# Altium schematic symbol library SamacSys.SchLib: 171 symbols (part 2 of 3)
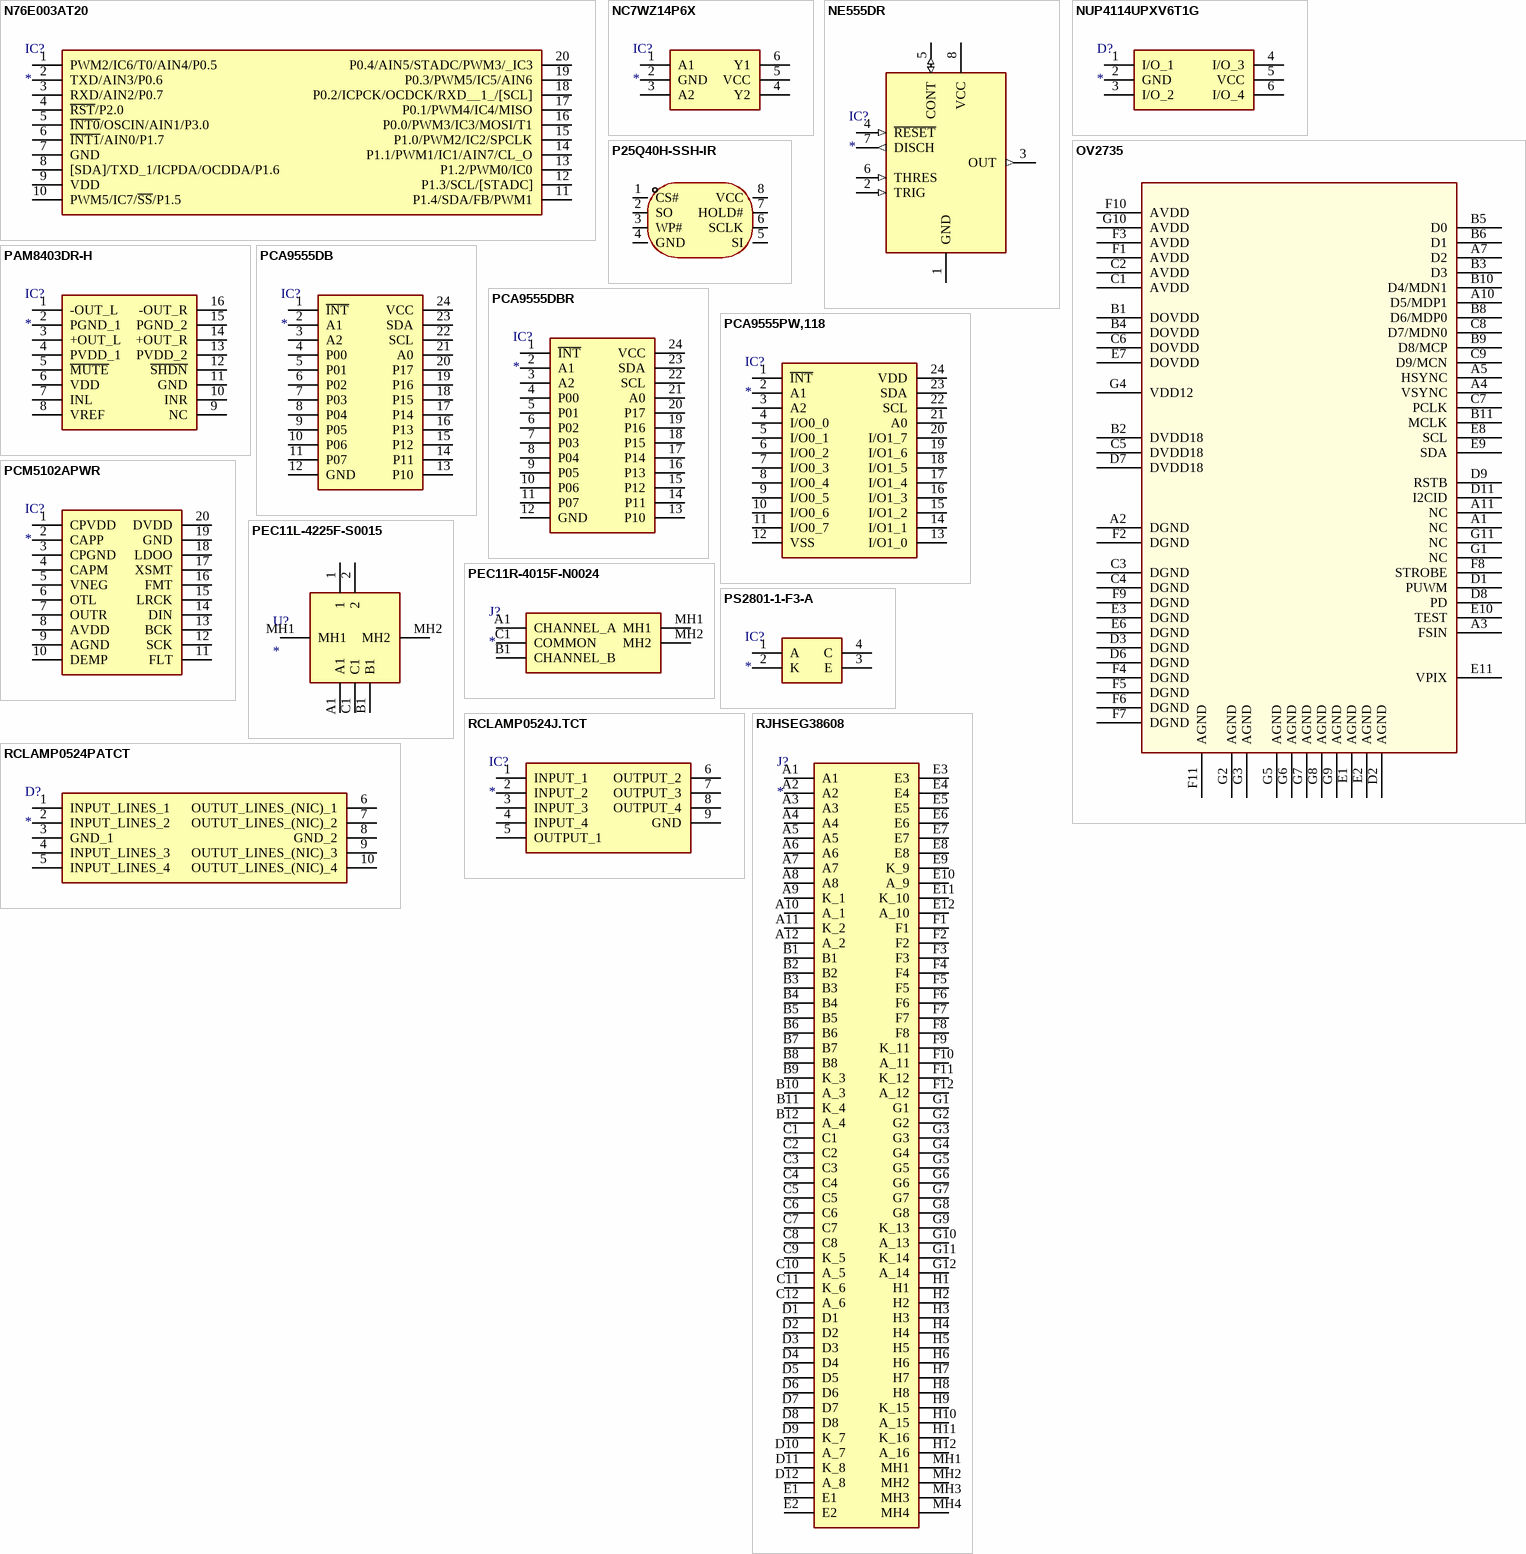
[diagram p7: symbols N76E003AT20 to RJHSEG38608]

## P25Q40H-SSH-IR
designator IC?  (value not drawn)
NOR Flash; Manufacturer: 普冉(PUYA); Add into BOM: yes; Name: P25Q40H-SSH-IR; Symbol: P25Q40H-SSH-IR; Device: P25Q40H-SSH-IR; LCSC Part Name: P25Q40H-SSH-IR; Supplier Part: C559190; Manufacturer Part: P25Q40H-SSH-IR; Supplier Footprint: SOP-8_150mil; JLCPCB Part Class: Extended Part; Datasheet: https://atta.szlcsc.com/upload/public/pdf/source/20200525/C559183_07BD32D8DF77BC45A4D1018710E6F498.pdf; Supplier: LCSC; Convert to PCB: yes; Memory Type: -; Memory Format: -; Technology: -; Memory Size: -; Clock Frequency: -; Byte-Program Time - tBP: -; Page Programming Time - tPP: -; Memory Interface: -; Voltage - Supply: -; Operating Temperature: -
footprint SOIC127P600X175-8N
pins: 1 CS#, 2 SO, 3 WP#, 4 GND, 5 SI, 6 SCLK, 7 HOLD#, 8 VCC

## PAM8403DR-H
designator IC?
Integrated Circuit; Manufacturer_Name: Diodes Inc.; Manufacturer_Part_Number: PAM8403DR-H; Datasheet Link: https://www.diodes.com/assets/Datasheets/PAM8403H.pdf; Height: 1.75mm; Mouser Part Number: 621-PAM8403DR-H; Mouser Price/Stock: https://www.mouser.co.uk/ProductDetail/Diodes-Incorporated/PAM8403DR-H?qs=%252BSlWJf1dfkKg75OIzZ5AmQ%3D%3D; Arrow Part Number: PAM8403DR-H; Arrow Price/Stock: https://www.arrow.com/en/products/pam8403dr-h/diodes-incorporated?region=nac
footprint SOIC127P605X175-16N
pins: 1 -OUT_L, 2 PGND_1, 3 +OUT_L, 4 PVDD_1, 5 ~{MUTE}, 6 VDD, 7 INL, 8 VREF, 9 NC, 10 INR, 11 GND, 12 ~{SHDN}, 13 PVDD_2, 14 +OUT_R, 15 PGND_2, 16 -OUT_R

## PCA9555DB
designator IC?
Integrated Circuit; Manufacturer_Name: Texas Instruments; Manufacturer_Part_Number: PCA9555DB; Datasheet Link: http://www.ti.com/lit/gpn/PCA9555; Height: 2mm; Mouser Part Number: 595-PCA9555DB; Mouser Price/Stock: https://www.mouser.co.uk/ProductDetail/Texas-Instruments/PCA9555DB?qs=wgAEGBTxy7nABWVtp7CYpQ%3D%3D; Arrow Part Number: PCA9555DB; Arrow Price/Stock: https://www.arrow.com/en/products/pca9555db/texas-instruments?region=nac
footprint SOP65P780X200-24N
pins: 1 ~{INT}, 2 A1, 3 A2, 4 P00, 5 P01, 6 P02, 7 P03, 8 P04, 9 P05, 10 P06, 11 P07, 12 GND, 13 P10, 14 P11, 15 P12, 16 P13, 17 P14, 18 P15, 19 P16, 20 P17, 21 A0, 22 SCL, 23 SDA, 24 VCC

## PCA9555DBR
designator IC?
Integrated Circuit; Manufacturer_Name: Texas Instruments; Manufacturer_Part_Number: PCA9555DBR; Datasheet Link: http://www.ti.com/lit/gpn/pca9555; Height: 2mm; Mouser Part Number: 595-PCA9555DBR; Mouser Price/Stock: https://www.mouser.co.uk/ProductDetail/Texas-Instruments/PCA9555DBR?qs=wgAEGBTxy7l1xXG%252B7TYBgA%3D%3D; Arrow Part Number: PCA9555DBR; Arrow Price/Stock: https://www.arrow.com/en/products/pca9555dbr/texas-instruments?region=nac
footprint SOP65P780X200-24N
pins: 1 ~{INT}, 2 A1, 3 A2, 4 P00, 5 P01, 6 P02, 7 P03, 8 P04, 9 P05, 10 P06, 11 P07, 12 GND, 13 P10, 14 P11, 15 P12, 16 P13, 17 P14, 18 P15, 19 P16, 20 P17, 21 A0, 22 SCL, 23 SDA, 24 VCC

## PCA9555PW,118
designator IC?
Integrated Circuit; Manufacturer_Name: PHILIPS; Manufacturer_Part_Number: PCA9555PW,118; Datasheet Link: http://www.nxp.com/docs/en/data-sheet/PCA9555.pdf; Height: 1.1mm; Mouser Part Number: 771-PCA9555PW-T; Mouser Price/Stock: https://www.mouser.co.uk/ProductDetail/NXP-Semiconductors/PCA9555PW118?qs=LOCUfHb8d9tg%2FDVhTFcZVQ%3D%3D; Arrow Part Number: PCA9555PW,118; Arrow Price/Stock: https://www.arrow.com/en/products/pca9555pw118/nxp-semiconductors?region=nac
footprint SOP65P640X110-24N
pins: 1 ~{INT}, 2 A1, 3 A2, 4 I/O0_0, 5 I/O0_1, 6 I/O0_2, 7 I/O0_3, 8 I/O0_4, 9 I/O0_5, 10 I/O0_6, 11 I/O0_7, 12 VSS, 13 I/O1_0, 14 I/O1_1, 15 I/O1_2, 16 I/O1_3, 17 I/O1_4, 18 I/O1_5, 19 I/O1_6, 20 I/O1_7, 21 A0, 22 SCL, 23 SDA, 24 VDD

## PCM5102APWR
designator IC?
Integrated Circuit; Manufacturer_Name: Texas Instruments; Manufacturer_Part_Number: PCM5102APWR; Datasheet Link: https://componentsearchengine.com/Datasheets/2/PCM5102APWR.pdf; Height: 1.2mm; Arrow Part Number: PCM5102APWR; Arrow Price/Stock: https://www.arrow.com/en/products/pcm5102apwr/texas-instruments; Mouser Part Number: 595-PCM5102APWR; Mouser Price/Stock: https://www.mouser.co.uk/ProductDetail/Texas-Instruments/PCM5102APWR?qs=E2%2FxqS9xjzrfECkwEYoiyg%3D%3D
footprint SOP65P640X120-20N
pins: 1 CPVDD, 2 CAPP, 3 CPGND, 4 CAPM, 5 VNEG, 6 OTL, 7 OUTR, 8 AVDD, 9 AGND, 10 DEMP, 11 FLT, 12 SCK, 13 BCK, 14 DIN, 15 LRCK, 16 FMT, 17 XSMT, 18 LDOO, 19 GND, 20 DVDD

## PEC11L-4225F-S0015
designator U?
Undefined or Miscellaneous; Manufacturer_Name: Bourns; Manufacturer_Part_Number: PEC11L-4225F-S0015; Datasheet Link: https://www.mouser.com/datasheet/2/54/pec11l-777793.pdf; Height: 25mm; Mouser Part Number: 652-PEC11L4225FS0015; Mouser Price/Stock: https://www.mouser.com/Search/Refine.aspx?Keyword=652-PEC11L4225FS0015
footprint PEC11L4120FS0020
pins: 1, 2, A1, B1, C1, MH1, MH2

## PEC11R-4015F-N0024
designator J?
Connector; Manufacturer_Name: Bourns; Manufacturer_Part_Number: PEC11R-4015F-N0024; Allied_Number: 70407968; Datasheet Link: https://www.bourns.com/docs/Product-Datasheets/PEC11R.pdf; Height: 22mm; Mouser Part Number: 652-PEC11R-4015F-N24; Mouser Price/Stock: https://www.mouser.com/Search/Refine.aspx?Keyword=652-PEC11R-4015F-N24; RS Part Number: 7816824P; RS Price/Stock: http://uk.rs-online.com/web/p/products/7816824P; Allied Price/Stock: https://www.alliedelec.com/bourns-pec11r-4015f-n0024/70407968/
footprint PEC11R4015FN0024
pins: A1 CHANNEL_A, B1 CHANNEL_B, C1 COMMON, MH1, MH2

## PS2801-1-F3-A
designator IC?
Integrated Circuit; Manufacturer_Name: CEL; Manufacturer_Part_Number: PS2801-1-F3-A; Datasheet Link: https://www.mouser.co.uk/datasheet/2/286/ps2801-18281.pdf; Height: 2.1mm; Mouser Part Number: 551-PS2801-1-F3-A; Mouser Price/Stock: https://www.mouser.co.uk/ProductDetail/CEL/PS2801-1-F3-A?qs=m%252B2zlOfhi0kP5w4d5G38%2Fw%3D%3D; Arrow Part Number: PS2801-1-F3-A; Arrow Price/Stock: https://www.arrow.com/en/products/ps2801-1-f3-a/california-eastern-laboratories
footprint SOIC127P700X210-4N
pins: 1 A, 2 K, 3 E, 4 C

## RCLAMP0524J.TCT
designator IC?
Integrated Circuit; Manufacturer_Name: SEMTECH; Manufacturer_Part_Number: RCLAMP0524J.TCT; Datasheet Link: https://www.mouser.com/datasheet/2/761/rclamp0524j-1276784.pdf; Height: 0.5mm; Mouser Part Number: 947-RCLAMP0524J.TCT; Mouser Price/Stock: https://www.mouser.co.uk/ProductDetail/Semtech/RCLAMP0524JTCT?qs=rBWM4%252BvDhIfT5R6eTt%252Bzcg%3D%3D; Arrow Part Number: RCLAMP0524J.TCT; Arrow Price/Stock: https://www.arrow.com/en/products/rclamp0524j.tct/semtech?region=nac
footprint RCLAMP0524JTCT
pins: 1 INPUT_1, 2 INPUT_2, 3 INPUT_3, 4 INPUT_4, 5 OUTPUT_1, 6 OUTPUT_2, 7 OUTPUT_3, 8 OUTPUT_4, 9 GND

## RCLAMP0524PATCT
designator D?
TVS Diode (Uni-directional); Manufacturer_Name: SEMTECH; Manufacturer_Part_Number: RCLAMP0524PATCT; Datasheet Link: https://datasheet.datasheetarchive.com/originals/distributors/Datasheets-DGA26/1842019.pdf; Height: 0.65mm; Mouser Part Number: 947-RCLAMP0524PATCT; Mouser Price/Stock: https://www.mouser.co.uk/ProductDetail/Semtech/RCLAMP0524PATCT?qs=rBWM4%252BvDhIcnc1nesEh7XA%3D%3D; Arrow Part Number: RCLAMP0524PATCT; Arrow Price/Stock: https://www.arrow.com/en/products/rclamp0524patct/semtech?region=nac
footprint RCLAMP0524PATCT
pins: 1 INPUT_LINES_1, 2 INPUT_LINES_2, 3 GND_1, 4 INPUT_LINES_3, 5 INPUT_LINES_4, 6 OUTUT_LINES_(NIC)_1, 7 OUTUT_LINES_(NIC)_2, 8 GND_2, 9 OUTUT_LINES_(NIC)_3, 10 OUTUT_LINES_(NIC)_4

## RJHSEG38608
designator J?
Connector; Manufacturer_Name: Amphenol Communications Solutions; Manufacturer_Part_Number: RJHSEG38608; Datasheet Link: https://cdn.amphenol-cs.com/media/wysiwyg/files/drawing/rjhsex38x08x.pdf; Height: 13.46mm; Mouser Part Number: 523-RJHSEG38608; Mouser Price/Stock: https://www.mouser.co.uk/ProductDetail/Amphenol-Commercial-Products/RJHSEG38608?qs=ToP8pWlZ0bNPWEmZixjAfA%3D%3D
footprint RJHSEG38608
pins: A1, A2, A3, A4, A5, A6, A7, A8, A9 K_1, A10 A_1, A11 K_2, A12 A_2, B1, B2, B3, B4, B5, B6, B7, B8, B9 K_3, B10 A_3, B11 K_4, B12 A_4, C1, C2, C3, C4, C5, C6, C7, C8, C9 K_5, C10 A_5, C11 K_6, C12 A_6, D1, D2, D3, D4, D5, D6, D7, D8, D9 K_7, D10 A_7, D11 K_8, D12 A_8, E1, E2, E3, E4, E5, E6, E7, E8, E9 K_9, E10 A_9, E11 K_10, E12 A_10, F1, F2, F3, F4, F5, F6, F7, F8, F9 K_11, F10 A_11, F11 K_12, F12 A_12, G1, G2, G3, G4, G5, G6, G7, G8, G9 K_13, G10 A_13, G11 K_14, G12 A_14, H1, H2, H3, H4, H5, H6, H7, H8, H9 K_15, H10 A_15, H11 K_16, H12 A_16, MH1, MH2, MH3, MH4

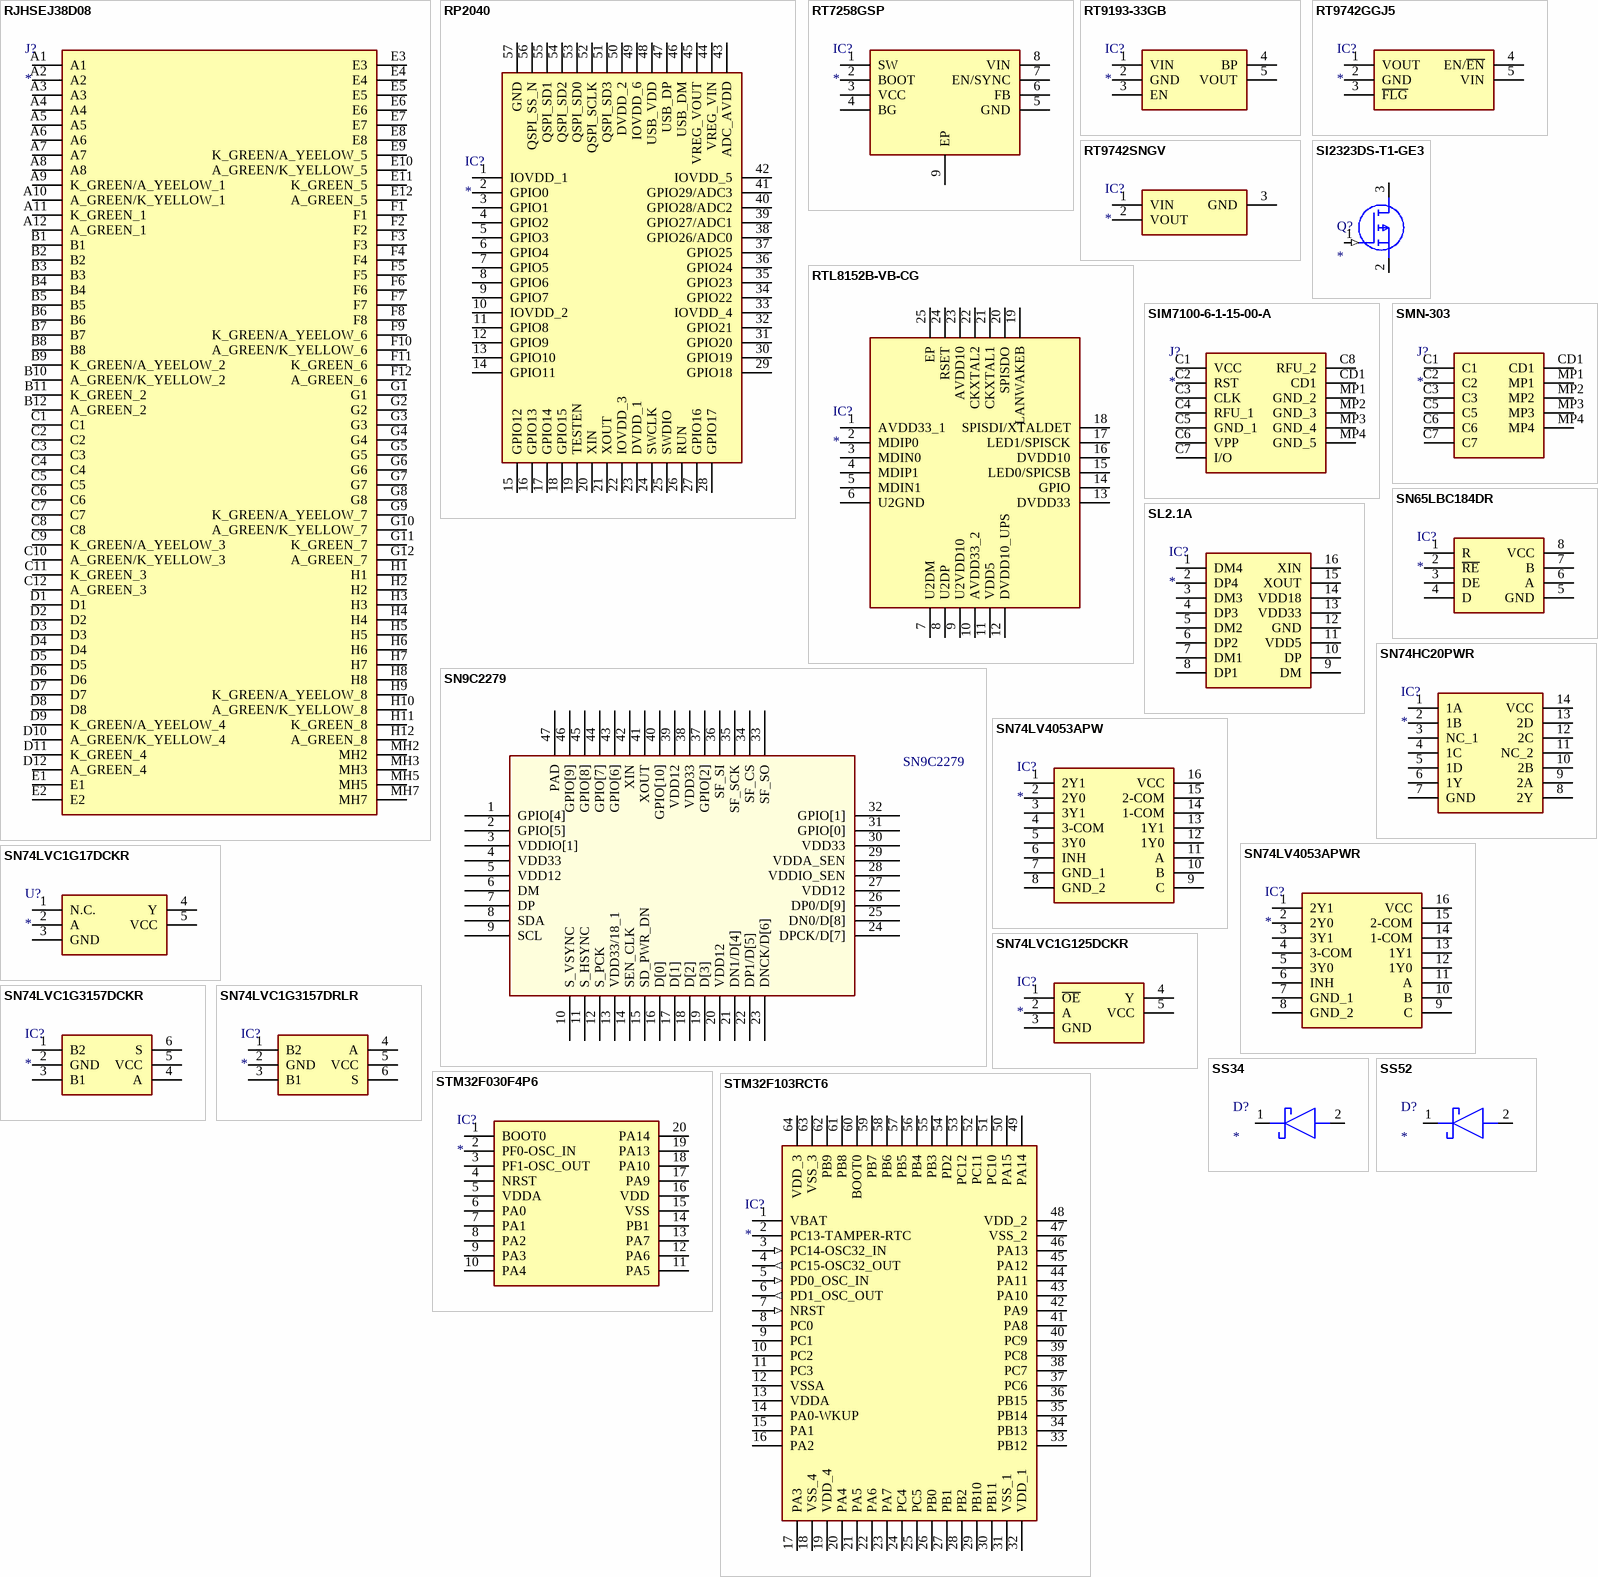
[diagram p4: symbols RJHSEJ38D08 to STM32F103RCT6]

## RJHSEJ38D08
designator J?
Connector; Manufacturer_Name: Amphenol Communications Solutions; Manufacturer_Part_Number: RJHSEJ38D08; Datasheet Link: https://cdn.amphenol-cs.com/media/wysiwyg/files/drawing/rjhsex38x08x.pdf; Height: 13.46mm; Mouser Part Number: 523-RJHSEJ38D08; Mouser Price/Stock: https://www.mouser.co.uk/ProductDetail/Amphenol-Commercial-Products/RJHSEJ38D08?qs=ToP8pWlZ0bOHSqHwPdClQg%3D%3D
footprint RJHSEJ38D08
pins: A1, A2, A3, A4, A5, A6, A7, A8, A9 K_GREEN/A_YEELOW_1, A10 A_GREEN/K_YELLOW_1, A11 K_GREEN_1, A12 A_GREEN_1, B1, B2, B3, B4, B5, B6, B7, B8, B9 K_GREEN/A_YEELOW_2, B10 A_GREEN/K_YELLOW_2, B11 K_GREEN_2, B12 A_GREEN_2, C1, C2, C3, C4, C5, C6, C7, C8, C9 K_GREEN/A_YEELOW_3, C10 A_GREEN/K_YELLOW_3, C11 K_GREEN_3, C12 A_GREEN_3, D1, D2, D3, D4, D5, D6, D7, D8, D9 K_GREEN/A_YEELOW_4, D10 A_GREEN/K_YELLOW_4, D11 K_GREEN_4, D12 A_GREEN_4, E1, E2, E3, E4, E5, E6, E7, E8, E9 K_GREEN/A_YEELOW_5, E10 A_GREEN/K_YELLOW_5, E11 K_GREEN_5, E12 A_GREEN_5, F1, F2, F3, F4, F5, F6, F7, F8, F9 K_GREEN/A_YEELOW_6, F10 A_GREEN/K_YELLOW_6, F11 K_GREEN_6, F12 A_GREEN_6, G1, G2, G3, G4, G5, G6, G7, G8, G9 K_GREEN/A_YEELOW_7, G10 A_GREEN/K_YELLOW_7, G11 K_GREEN_7, G12 A_GREEN_7, H1, H2, H3, H4, H5, H6, H7, H8, H9 K_GREEN/A_YEELOW_8, H10 A_GREEN/K_YELLOW_8, H11 K_GREEN_8, H12 A_GREEN_8, MH2, MH3, MH5, MH7

## RP2040
designator IC?
Integrated Circuit; Manufacturer_Name: RASPBERRY-PI; Manufacturer_Part_Number: RP2040; Datasheet Link: https://datasheets.raspberrypi.org/rp2040/rp2040-datasheet.pdf; Height: 0.9mm
footprint QFN40P700X700X90-57N-D
pins: 1 IOVDD_1, 2 GPIO0, 3 GPIO1, 4 GPIO2, 5 GPIO3, 6 GPIO4, 7 GPIO5, 8 GPIO6, 9 GPIO7, 10 IOVDD_2, 11 GPIO8, 12 GPIO9, 13 GPIO10, 14 GPIO11, 15 GPIO12, 16 GPIO13, 17 GPIO14, 18 GPIO15, 19 TESTEN, 20 XIN, 21 XOUT, 22 IOVDD_3, 23 DVDD_1, 24 SWCLK, 25 SWDIO, 26 RUN, 27 GPIO16, 28 GPIO17, 29 GPIO18, 30 GPIO19, 31 GPIO20, 32 GPIO21, 33 IOVDD_4, 34 GPIO22, 35 GPIO23, 36 GPIO24, 37 GPIO25, 38 GPIO26/ADC0, 39 GPIO27/ADC1, 40 GPIO28/ADC2, 41 GPIO29/ADC3, 42 IOVDD_5, 43 ADC_AVDD, 44 VREG_VIN, 45 VREG_VOUT, 46 USB_DM, 47 USB_DP, 48 USB_VDD, 49 IOVDD_6, 50 DVDD_2, 51 QSPI_SD3, 52 QSPI_SCLK, 53 QSPI_SD0, 54 QSPI_SD2, 55 QSPI_SD1, 56 QSPI_SS_N, 57 GND

## RT7258GSP
designator IC?
Integrated Circuit; Manufacturer_Name: RICHTEK; Manufacturer_Part_Number: RT7258GSP; Datasheet Link: https://www.richtek.com/assets/product_file/RT7258/DS7258-01.pdf; Height: 1.753mm
footprint SOIC127P600X175-9N
pins: 1 SW, 2 BOOT, 3 VCC, 4 BG, 5 GND, 6 FB, 7 EN/SYNC, 8 VIN, 9 EP

## RT9193-33GB
designator IC?
Integrated Circuit; Manufacturer_Name: RICHTEK; Manufacturer_Part_Number: RT9193-33GB; Datasheet Link: http://www.richtek.com/assets/product_file/RT9193/DS9193-17.pdf; Height: 1.295mm
footprint SOT94P279X130-5N
pins: 1 VIN, 2 GND, 3 EN, 4 BP, 5 VOUT

## RT9742GGJ5
designator IC?
Integrated Circuit; Manufacturer_Name: RICHTEK; Manufacturer_Part_Number: RT9742GGJ5; Datasheet Link: https://componentsearchengine.com/Datasheets/2/RT9742GGJ5.pdf; Height: 1mm
footprint SOT94P280X100-5N
pins: 1 VOUT, 2 GND, 3 ~{FLG}, 4 EN/~{EN}, 5 VIN

## RT9742SNGV
designator IC?
Integrated Circuit; Manufacturer_Name: RICHTEK; Manufacturer_Part_Number: RT9742SNGV; Datasheet Link: https://datasheet.lcsc.com/szlcsc/Richtek-Tech-RT9742ANGJ5F_C147955.pdf; Height: 1.295mm
footprint SOT95P279X130-3N
pins: 1 VIN, 2 VOUT, 3 GND

## RTL8152B-VB-CG
designator IC?
Integrated Circuit; Manufacturer_Name: Realtek; Manufacturer_Part_Number: RTL8152B-VB-CG; Datasheet Link: https://datasheet.lcsc.com/szlcsc/Realtek-Semicon-RTL8152B-VB-CG_C50656.pdf; Height: 0.9mm
footprint QFN50P400X400X90-25N
pins: 1 AVDD33_1, 2 MDIP0, 3 MDIN0, 4 MDIP1, 5 MDIN1, 6 U2GND, 7 U2DM, 8 U2DP, 9 U2VDD10, 10 AVDD33_2, 11 VDD5, 12 DVDD10_UPS, 13 DVDD33, 14 GPIO, 15 LED0/SPICSB, 16 DVDD10, 17 LED1/SPISCK, 18 SPISDI/XTALDET, 19 LANWAKEB, 20 SPISDO, 21 CKXTAL1, 22 CKXTAL2, 23 AVDD10, 24 RSET, 25 EP

## SI2323DS-T1-GE3
designator Q?
MOSFET (P-Channel); Manufacturer_Name: Vishay; Manufacturer_Part_Number: SI2323DS-T1-GE3; Datasheet Link: https://mouser.componentsearchengine.com/Datasheets/2/SI2323DS-T1-GE3.pdf; Height: 1.12mm; Arrow Part Number: SI2323DS-T1-GE3; Arrow Price/Stock: https://www.arrow.com/en/products/si2323ds-t1-ge3/vishay; Mouser Part Number: 781-SI2323DS-T1-GE3; Mouser Price/Stock: https://www.mouser.co.uk/ProductDetail/Vishay-Semiconductors/SI2323DS-T1-GE3?qs=IRuQNBqMOcnPRxUlCX6ywQ%3D%3D
footprint SOT95P237X112-3N
pins: 1 G (in), 2 S, 3 D

## SIM7100-6-1-15-00-A
designator J?
Connector; Manufacturer_Name: GCT (GLOBAL CONNECTOR TECHNOLOGY); Manufacturer_Part_Number: SIM7100-6-1-15-00-A; Datasheet Link: https://gct.co/files/drawings/sim7100.pdf; Height: 1.5mm
footprint SIM7100611500A
pins: C1 VCC, C2 RST, C3 CLK, C4 RFU_1, C5 GND_1, C6 VPP, C7 I/O, C8 RFU_2, CD1, MP1 GND_2, MP2 GND_3, MP3 GND_4, MP4 GND_5

## SL2.1A
designator IC?
Integrated Circuit; Manufacturer_Name: CoreChips ShenZhen CO.,Ltd; Manufacturer_Part_Number: SL2.1A; Datasheet Link: https://datasheet.lcsc.com/szlcsc/1811151645_CoreChips-SL2-1A_C192893.pdf; Height: 1.85mm; Arrow Part Number: SL2.1A
footprint SOIC127P604X185-16N
pins: 1 DM4, 2 DP4, 3 DM3, 4 DP3, 5 DM2, 6 DP2, 7 DM1, 8 DP1, 9 DM, 10 DP, 11 VDD5, 12 GND, 13 VDD33, 14 VDD18, 15 XOUT, 16 XIN

## SMN-303
designator J?
Connector; Manufacturer_Name: XUNPU; Manufacturer_Part_Number: SMN-303; Datasheet Link: https://datasheet.lcsc.com/szlcsc/XUNPU-SMN-303_C266888.pdf; Height: 1.47mm
footprint SMN303
pins: C1, C2, C3, C5, C6, C7, CD1, MP1, MP2, MP3, MP4

## SN9C2279
designator IC?
DSP芯片
footprint QFN-46
pins: 1 GPIO[4], 2 GPIO[5], 3 VDDIO[1], 4 VDD33, 5 VDD12, 6 DM, 7 DP, 8 SDA, 9 SCL, 10 S_VSYNC, 11 S_HSYNC, 12 S_PCK, 13 VDD33/18_1, 14 SEN_CLK, 15 SD_PWR_DN, 16 D[0], 17 D[1], 18 D[2], 19 D[3], 20 VDD12, 21 DN1/D[4], 22 DP1/D[5], 23 DNCK/D[6], 24 DPCK/D[7], 25 DN0/D[8], 26 DP0/D[9], 27 VDD12, 28 VDDIO_SEN, 29 VDDA_SEN, 30 VDD33, 31 GPIO[0], 32 GPIO[1], 33 SF_SO, 34 SF_CS, 35 SF_SCK, 36 SF_SI, 37 GPIO[2], 38 VDD33 (power), 39 VDD12, 40 GPIO[10], 41 XOUT, 42 XIN, 43 GPIO[6], 44 GPIO[7], 45 GPIO[8], 46 GPIO[9], 47 PAD

## SN65LBC184DR
designator IC?
Integrated Circuit; Manufacturer_Name: Texas Instruments; Manufacturer_Part_Number: SN65LBC184DR; Datasheet Link: http://www.ti.com/lit/gpn/sn65lbc184; Height: 1.75mm; Mouser Part Number: 595-SN65LBC184DR; Mouser Price/Stock: https://www.mouser.co.uk/ProductDetail/Texas-Instruments/SN65LBC184DR?qs=QViXGNcIEAv03dbuasa4Ew%3D%3D; Arrow Part Number: SN65LBC184DR; Arrow Price/Stock: https://www.arrow.com/en/products/sn65lbc184dr/texas-instruments
footprint SOIC127P600X175-8N
pins: 1 R, 2 ~{RE}, 3 DE, 4 D, 5 GND, 6 A, 7 B, 8 VCC

## SN74HC20PWR
designator IC?
Integrated Circuit; Manufacturer_Name: Texas Instruments; Manufacturer_Part_Number: SN74HC20PWR; Datasheet Link: http://www.ti.com/lit/gpn/SN74HC20; Height: 1.2mm; Mouser Part Number: 595-SN74HC20PWR; Mouser Price/Stock: https://www.mouser.co.uk/ProductDetail/Texas-Instruments/SN74HC20PWR?qs=AgY10sKTvDKo2haJiEwQiw%3D%3D; Arrow Part Number: SN74HC20PWR; Arrow Price/Stock: https://www.arrow.com/en/products/sn74hc20pwr/texas-instruments
footprint SOP65P640X120-14N
pins: 1 1A, 2 1B, 3 NC_1, 4 1C, 5 1D, 6 1Y, 7 GND, 8 2Y, 9 2A, 10 2B, 11 NC_2, 12 2C, 13 2D, 14 VCC

## SN74LV4053APW
designator IC?
Integrated Circuit; Manufacturer_Name: Texas Instruments; Manufacturer_Part_Number: SN74LV4053APW; Datasheet Link: http://www.ti.com/lit/ds/symlink/sn74lv4053a.pdf; Height: 1.2mm; Mouser Part Number: 595-SN74LV4053APW; Mouser Price/Stock: https://www.mouser.co.uk/ProductDetail/Texas-Instruments/SN74LV4053APW?qs=ZA235jQDfboEgE9quEyfoA%3D%3D; Arrow Part Number: SN74LV4053APW; Arrow Price/Stock: https://www.arrow.com/en/products/sn74lv4053apw/texas-instruments
footprint SOP65P640X120-16N
pins: 1 2Y1, 2 2Y0, 3 3Y1, 4 3-COM, 5 3Y0, 6 INH, 7 GND_1, 8 GND_2, 9 C, 10 B, 11 A, 12 1Y0, 13 1Y1, 14 1-COM, 15 2-COM, 16 VCC

## SN74LV4053APWR
designator IC?
Integrated Circuit; Manufacturer_Name: Texas Instruments; Manufacturer_Part_Number: SN74LV4053APWR; Datasheet Link: http://www.ti.com/lit/gpn/sn74lv4053a; Height: 1.2mm; Mouser Part Number: 595-SN74LV4053APWR; Mouser Price/Stock: https://www.mouser.co.uk/ProductDetail/Texas-Instruments/SN74LV4053APWR?qs=j%2FZo4ajzVJLZRZtx%2FRZQ0w%3D%3D; Arrow Part Number: SN74LV4053APWR; Arrow Price/Stock: https://www.arrow.com/en/products/sn74lv4053apwr/texas-instruments
footprint SOP65P640X120-16N
pins: 1 2Y1, 2 2Y0, 3 3Y1, 4 3-COM, 5 3Y0, 6 INH, 7 GND_1, 8 GND_2, 9 C, 10 B, 11 A, 12 1Y0, 13 1Y1, 14 1-COM, 15 2-COM, 16 VCC

## SN74LVC1G17DCKR
designator U?
Undefined or Miscellaneous; Manufacturer_Name: Texas Instruments; Manufacturer_Part_Number: SN74LVC1G17DCKR; Datasheet Link: http://www.ti.com/lit/ds/symlink/sn74lvc1g17.pdf; Height: 1.1mm; Mouser Part Number: 595-SN74LVC1G17DCKR; Mouser Price/Stock: https://www.mouser.co.uk/ProductDetail/Texas-Instruments/SN74LVC1G17DCKR?qs=L5CvrNUdZioM7CGWSWVycQ%3D%3D; Arrow Part Number: SN74LVC1G17DCKR; Arrow Price/Stock: https://www.arrow.com/en/products/sn74lvc1g17dckr/texas-instruments?region=nac
footprint SOT65P210X110-5N
pins: 1 N.C., 2 A, 3 GND, 4 Y, 5 VCC

## SN74LVC1G125DCKR
designator IC?
Integrated Circuit; Manufacturer_Name: Texas Instruments; Manufacturer_Part_Number: SN74LVC1G125DCKR; Datasheet Link: http://docs-emea.rs-online.com/webdocs/0b86/0900766b80b8667e.pdf; Height: 1.1mm; Mouser Part Number: 595-SN74LVC1G125DCKR; Mouser Price/Stock: https://www.mouser.co.uk/ProductDetail/Texas-Instruments/SN74LVC1G125DCKR?qs=dT9u2OTAaVUrYF5qV08%2Fhw%3D%3D; Arrow Part Number: SN74LVC1G125DCKR; Arrow Price/Stock: https://www.arrow.com/en/products/sn74lvc1g125dckr/texas-instruments
footprint SOT65P210X110-5N
pins: 1 ~{OE}, 2 A, 3 GND, 4 Y, 5 VCC

## SN74LVC1G3157DCKR
designator IC?
Integrated Circuit; Manufacturer_Name: Texas Instruments; Manufacturer_Part_Number: SN74LVC1G3157DCKR; Datasheet Link: http://www.ti.com/lit/ds/symlink/sn74lvc1g3157.pdf; Height: 1.1mm; Mouser Part Number: 595-SN74LVC1G3157DCK; Mouser Price/Stock: https://www.mouser.co.uk/ProductDetail/Texas-Instruments/SN74LVC1G3157DCKR?qs=PVVDbbWpW3J21wbz0QWbxg%3D%3D; Arrow Part Number: SN74LVC1G3157DCKR; Arrow Price/Stock: https://www.arrow.com/en/products/sn74lvc1g3157dckr/texas-instruments?region=nac
footprint SOT65P210X110-6N
pins: 1 B2, 2 GND, 3 B1, 4 A, 5 VCC, 6 S

## SN74LVC1G3157DRLR
designator IC?
Integrated Circuit; Manufacturer_Name: Texas Instruments; Manufacturer_Part_Number: SN74LVC1G3157DRLR; Datasheet Link: http://www.ti.com/lit/gpn/sn74lvc1g3157; Height: 0.6mm; Mouser Part Number: 595-SN74LVC1G3157DRL; Mouser Price/Stock: https://www.mouser.co.uk/ProductDetail/Texas-Instruments/SN74LVC1G3157DRLR?qs=PVVDbbWpW3LmfSj83Os0NA%3D%3D; Arrow Part Number: SN74LVC1G3157DRLR; Arrow Price/Stock: https://www.arrow.com/en/products/sn74lvc1g3157drlr/texas-instruments?region=nac
footprint SOTFL50P160X60-6N
pins: 1 B2, 2 GND, 3 B1, 4 A, 5 VCC, 6 S

## SS34
designator D?
Schottky Diode; Manufacturer_Name: Taiwan Semiconductor; Manufacturer_Part_Number: SS34; Datasheet Link: https://componentsearchengine.com/Datasheets/1/SS34.pdf; Height: 2.62mm; Mouser Part Number: 821-SS34; Mouser Price/Stock: https://www.mouser.com/Search/Refine.aspx?Keyword=821-SS34
footprint DIOM7959X262N
pins: 1 K, 2 A

## SS52
designator D?
Schottky Diode; Manufacturer_Name: HY Electronic Corp; Manufacturer_Part_Number: SS52; Datasheet Link: https://www.taitroncomponents.com/catalog/Datasheet/SS52.pdf; Height: 2.62mm; RS Part Number: 9179168P; RS Price/Stock: http://uk.rs-online.com/web/p/products/9179168P
footprint DIOM7961X262N
pins: 1 K, 2 A

## STM32F030F4P6
designator IC?
Integrated Circuit; Manufacturer_Name: STMicroelectronics; Manufacturer_Part_Number: STM32F030F4P6; Datasheet Link: http://www.st.com/web/en/resource/technical/document/datasheet/DM00088500.pdf; Height: 1.2mm; Arrow Part Number: STM32F030F4P6; Arrow Price/Stock: https://www.arrow.com/en/products/stm32f030f4p6/stmicroelectronics; Mouser Part Number: 511-STM32F030F4P6; Mouser Price/Stock: https://www.mouser.co.uk/ProductDetail/STMicroelectronics/STM32F030F4P6?qs=eyrSuY1LhL02tVhJ92aI6g%3D%3D
footprint SOP65P640X120-20N
pins: 1 BOOT0, 2 PF0-OSC_IN, 3 PF1-OSC_OUT, 4 NRST, 5 VDDA, 6 PA0, 7 PA1, 8 PA2, 9 PA3, 10 PA4, 11 PA5, 12 PA6, 13 PA7, 14 PB1, 15 VSS, 16 VDD, 17 PA9, 18 PA10, 19 PA13, 20 PA14

## STM32F103RCT6
designator IC?
Integrated Circuit; Manufacturer_Name: STMicroelectronics; Manufacturer_Part_Number: STM32F103RCT6; Allied_Number: 70391008; Datasheet Link: http://www.st.com/st-web-ui/static/active/en/resource/technical/document/datasheet/CD00191185.pdf; Height: 1.6mm; Mouser Part Number: 511-STM32F103RCT6; Mouser Price/Stock: https://www.mouser.com/Search/Refine.aspx?Keyword=511-STM32F103RCT6; RS Part Number: 7141079P; RS Price/Stock: http://uk.rs-online.com/web/p/products/7141079P; Allied Price/Stock: http://www.alliedelec.com/stmicroelectronics-stm32f103rct6/70391008/
footprint QFP50P1200X1200X160-64N
pins: 1 VBAT, 2 PC13-TAMPER-RTC, 3 PC14-OSC32_IN (in), 4 PC15-OSC32_OUT (out), 5 PD0_OSC_IN (in), 6 PD1_OSC_OUT (out), 7 NRST (in), 8 PC0, 9 PC1, 10 PC2, 11 PC3, 12 VSSA (power), 13 VDDA (power), 14 PA0-WKUP, 15 PA1, 16 PA2, 17 PA3, 18 VSS_4 (power), 19 VDD_4 (power), 20 PA4, 21 PA5, 22 PA6, 23 PA7, 24 PC4, 25 PC5, 26 PB0, 27 PB1, 28 PB2, 29 PB10, 30 PB11, 31 VSS_1 (power), 32 VDD_1 (power), 33 PB12, 34 PB13, 35 PB14, 36 PB15, 37 PC6, 38 PC7, 39 PC8, 40 PC9, 41 PA8, 42 PA9, 43 PA10, 44 PA11, 45 PA12, 46 PA13, 47 VSS_2 (power), 48 VDD_2 (power), 49 PA14, 50 PA15, 51 PC10, 52 PC11, 53 PC12, 54 PD2, 55 PB3, 56 PB4, 57 PB5, 58 PB6, 59 PB7, 60 BOOT0, 61 PB8, 62 PB9, 63 VSS_3 (power), 64 VDD_3 (power)

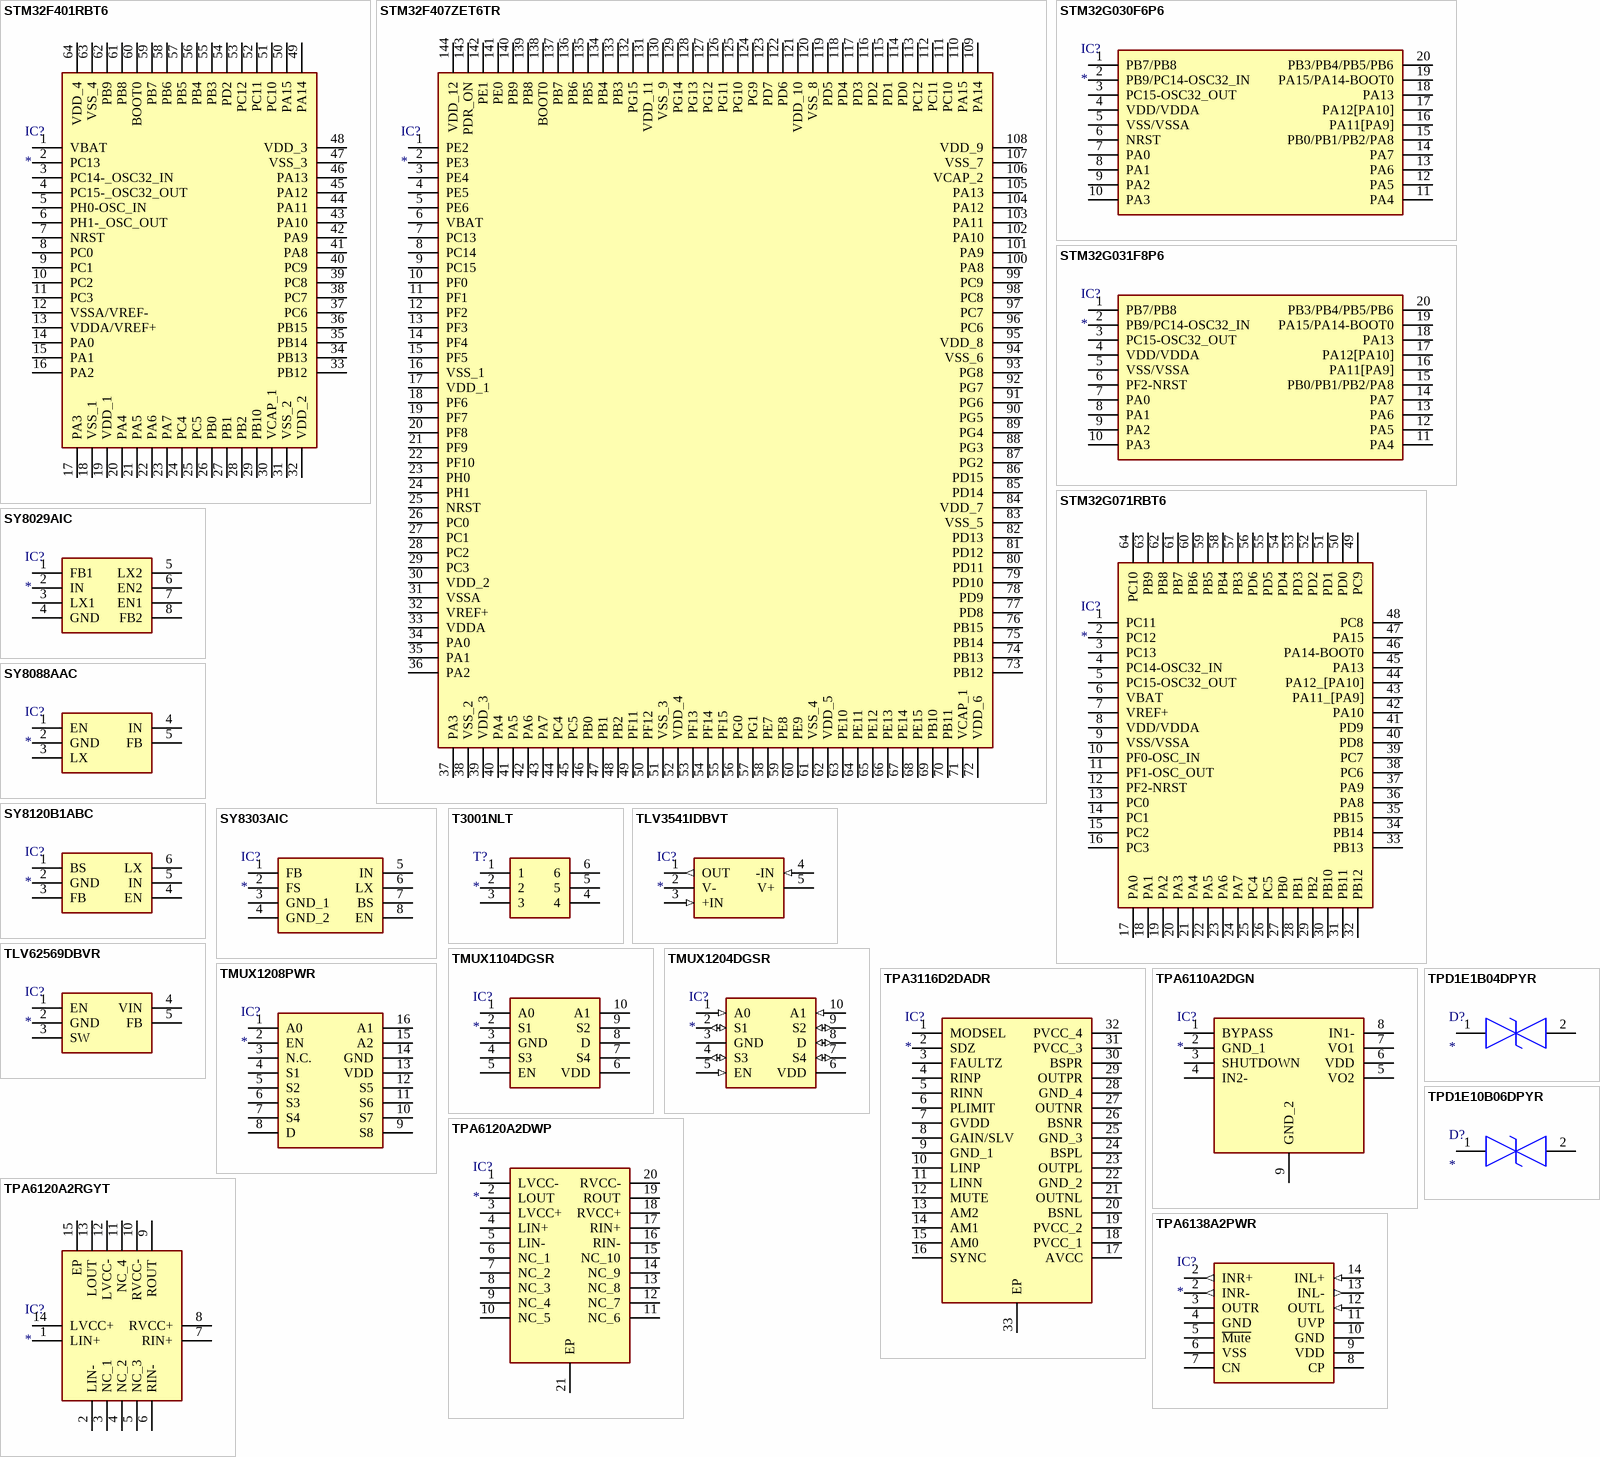
[diagram p5: symbols STM32F401RBT6 to TPD1E10B06DPYR]

## STM32F401RBT6
designator IC?
Integrated Circuit; Manufacturer_Name: STMicroelectronics; Manufacturer_Part_Number: STM32F401RBT6; Datasheet Link: http://www.st.com/web/en/resource/technical/document/datasheet/DM00086815.pdf; Height: 1.6mm; Mouser Part Number: 511-STM32F401RBT6; Mouser Price/Stock: https://www.mouser.com/Search/Refine.aspx?Keyword=511-STM32F401RBT6; Arrow Part Number: STM32F401RBT6; Arrow Price/Stock: https://www.arrow.com/en/products/stm32f401rbt6/stmicroelectronics
footprint QFP50P1200X1200X160-64N
pins: 1 VBAT, 2 PC13, 3 PC14-_OSC32_IN, 4 PC15-_OSC32_OUT, 5 PH0-OSC_IN, 6 PH1-_OSC_OUT, 7 NRST, 8 PC0, 9 PC1, 10 PC2, 11 PC3, 12 VSSA/VREF-, 13 VDDA/VREF+, 14 PA0, 15 PA1, 16 PA2, 17 PA3, 18 VSS_1, 19 VDD_1, 20 PA4, 21 PA5, 22 PA6, 23 PA7, 24 PC4, 25 PC5, 26 PB0, 27 PB1, 28 PB2, 29 PB10, 30 VCAP_1, 31 VSS_2, 32 VDD_2, 33 PB12, 34 PB13, 35 PB14, 36 PB15, 37 PC6, 38 PC7, 39 PC8, 40 PC9, 41 PA8, 42 PA9, 43 PA10, 44 PA11, 45 PA12, 46 PA13, 47 VSS_3, 48 VDD_3, 49 PA14, 50 PA15, 51 PC10, 52 PC11, 53 PC12, 54 PD2, 55 PB3, 56 PB4, 57 PB5, 58 PB6, 59 PB7, 60 BOOT0, 61 PB8, 62 PB9, 63 VSS_4, 64 VDD_4

## STM32F407ZET6TR
designator IC?
Integrated Circuit; Manufacturer_Name: STMicroelectronics; Manufacturer_Part_Number: STM32F407ZET6TR; Datasheet Link: https://4donline.ihs.com/images/VipMasterIC/IC/SGST/SGSTS30931/SGSTS30931-1.pdf?hkey=EF798316E3902B6ED9A73243A3159BB0; Height: 1.6mm
footprint QFP50P2200X2200X160-144N
pins: 1 PE2, 2 PE3, 3 PE4, 4 PE5, 5 PE6, 6 VBAT, 7 PC13, 8 PC14, 9 PC15, 10 PF0, 11 PF1, 12 PF2, 13 PF3, 14 PF4, 15 PF5, 16 VSS_1, 17 VDD_1, 18 PF6, 19 PF7, 20 PF8, 21 PF9, 22 PF10, 23 PH0, 24 PH1, 25 NRST, 26 PC0, 27 PC1, 28 PC2, 29 PC3, 30 VDD_2, 31 VSSA, 32 VREF+, 33 VDDA, 34 PA0, 35 PA1, 36 PA2, 37 PA3, 38 VSS_2, 39 VDD_3, 40 PA4, 41 PA5, 42 PA6, 43 PA7, 44 PC4, 45 PC5, 46 PB0, 47 PB1, 48 PB2, 49 PF11, 50 PF12, 51 VSS_3, 52 VDD_4, 53 PF13, 54 PF14, 55 PF15, 56 PG0, 57 PG1, 58 PE7, 59 PE8, 60 PE9, 61 VSS_4, 62 VDD_5, 63 PE10, 64 PE11, 65 PE12, 66 PE13, 67 PE14, 68 PE15, 69 PB10, 70 PB11, 71 VCAP_1, 72 VDD_6, 73 PB12, 74 PB13, 75 PB14, 76 PB15, 77 PD8, 78 PD9, 79 PD10, 80 PD11, 81 PD12, 82 PD13, 83 VSS_5, 84 VDD_7, 85 PD14, 86 PD15, 87 PG2, 88 PG3, 89 PG4, 90 PG5, 91 PG6, 92 PG7, 93 PG8, 94 VSS_6, 95 VDD_8, 96 PC6, 97 PC7, 98 PC8, 99 PC9, 100 PA8, 101 PA9, 102 PA10, 103 PA11, 104 PA12, 105 PA13, 106 VCAP_2, 107 VSS_7, 108 VDD_9, 109 PA14, 110 PA15, 111 PC10, 112 PC11, 113 PC12, 114 PD0, 115 PD1, 116 PD2, 117 PD3, 118 PD4, 119 PD5, 120 VSS_8, 121 VDD_10, 122 PD6, 123 PD7, 124 PG9, 125 PG10, 126 PG11, 127 PG12, 128 PG13, 129 PG14, 130 VSS_9, 131 VDD_11, 132 PG15, 133 PB3, 134 PB4, 135 PB5, 136 PB6, 137 PB7, 138 BOOT0, 139 PB8, 140 PB9, 141 PE0, 142 PE1, 143 PDR_ON, 144 VDD_12

## STM32G030F6P6
designator IC?
Integrated Circuit; Manufacturer_Name: STMicroelectronics; Manufacturer_Part_Number: STM32G030F6P6; Datasheet Link: https://componentsearchengine.com/Datasheets/1/STM32G030F6P6.pdf; Height: 1.2mm; Mouser Part Number: 511-STM32G030F6P6; Mouser Price/Stock: https://www.mouser.co.uk/ProductDetail/STMicroelectronics/STM32G030F6P6?qs=uwxL4vQweFOQRcVHghCbHA%3D%3D; Arrow Part Number: STM32G030F6P6; Arrow Price/Stock: https://www.arrow.com/en/products/stm32g030f6p6/stmicroelectronics?region=nac
footprint SOP65P640X120-20N
pins: 1 PB7/PB8, 2 PB9/PC14-OSC32_IN, 3 PC15-OSC32_OUT, 4 VDD/VDDA, 5 VSS/VSSA, 6 NRST, 7 PA0, 8 PA1, 9 PA2, 10 PA3, 11 PA4, 12 PA5, 13 PA6, 14 PA7, 15 PB0/PB1/PB2/PA8, 16 PA11[PA9], 17 PA12[PA10], 18 PA13, 19 PA15/PA14-BOOT0, 20 PB3/PB4/PB5/PB6

## STM32G031F8P6
designator IC?
Integrated Circuit; Manufacturer_Name: STMicroelectronics; Manufacturer_Part_Number: STM32G031F8P6; Datasheet Link: https://www.mouser.com/datasheet/2/389/en.DM00371828-1620887.pdf; Height: 1.2mm; Mouser Part Number: 511-STM32G031F8P6; Mouser Price/Stock: https://www.mouser.co.uk/ProductDetail/STMicroelectronics/STM32G031F8P6?qs=uwxL4vQweFPCanBqg1D5fQ%3D%3D; Arrow Part Number: STM32G031F8P6; Arrow Price/Stock: https://www.arrow.com/en/products/stm32g031f8p6/stmicroelectronics
footprint SOP65P640X120-20N
pins: 1 PB7/PB8, 2 PB9/PC14-OSC32_IN, 3 PC15-OSC32_OUT, 4 VDD/VDDA, 5 VSS/VSSA, 6 PF2-NRST, 7 PA0, 8 PA1, 9 PA2, 10 PA3, 11 PA4, 12 PA5, 13 PA6, 14 PA7, 15 PB0/PB1/PB2/PA8, 16 PA11[PA9], 17 PA12[PA10], 18 PA13, 19 PA15/PA14-BOOT0, 20 PB3/PB4/PB5/PB6

## STM32G071RBT6
designator IC?
Integrated Circuit; Manufacturer_Name: STMicroelectronics; Manufacturer_Part_Number: STM32G071RBT6; Datasheet Link: https://www.st.com/resource/en/datasheet/stm32g071rb.pdf; Height: 1.6mm; Mouser Part Number: 511-STM32G071RBT6; Mouser Price/Stock: https://www.mouser.co.uk/ProductDetail/STMicroelectronics/STM32G071RBT6?qs=PqoDHHvF648HnzmnrdeU1A%3D%3D; Arrow Part Number: STM32G071RBT6; Arrow Price/Stock: https://www.arrow.com/en/products/stm32g071rbt6/stmicroelectronics?region=nac
footprint QFP50P1200X1200X160-64N
pins: 1 PC11, 2 PC12, 3 PC13, 4 PC14-OSC32_IN, 5 PC15-OSC32_OUT, 6 VBAT, 7 VREF+, 8 VDD/VDDA, 9 VSS/VSSA, 10 PF0-OSC_IN, 11 PF1-OSC_OUT, 12 PF2-NRST, 13 PC0, 14 PC1, 15 PC2, 16 PC3, 17 PA0, 18 PA1, 19 PA2, 20 PA3, 21 PA4, 22 PA5, 23 PA6, 24 PA7, 25 PC4, 26 PC5, 27 PB0, 28 PB1, 29 PB2, 30 PB10, 31 PB11, 32 PB12, 33 PB13, 34 PB14, 35 PB15, 36 PA8, 37 PA9, 38 PC6, 39 PC7, 40 PD8, 41 PD9, 42 PA10, 43 PA11_[PA9], 44 PA12_[PA10], 45 PA13, 46 PA14-BOOT0, 47 PA15, 48 PC8, 49 PC9, 50 PD0, 51 PD1, 52 PD2, 53 PD3, 54 PD4, 55 PD5, 56 PD6, 57 PB3, 58 PB4, 59 PB5, 60 PB6, 61 PB7, 62 PB8, 63 PB9, 64 PC10

## SY8029AIC
designator IC?
Integrated Circuit; Manufacturer_Name: Silergy Corp; Manufacturer_Part_Number: SY8029AIC; Datasheet Link: https://datasheet.lcsc.com/szlcsc/Silergy-Corp-SY8029AIC_C207636.pdf; Height: 1.1mm
footprint SOT65P280X110-8N
pins: 1 FB1, 2 IN, 3 LX1, 4 GND, 5 LX2, 6 EN2, 7 EN1, 8 FB2

## SY8088AAC
designator IC?
Integrated Circuit; Manufacturer_Name: Silergy; Manufacturer_Part_Number: SY8088AAC; Datasheet Link: https://lcsc.com/product-detail/DC-DC-Converters_Silergy_SY8088AAC_SY8088AAC_C79313.html; Height: 1.4mm
footprint SOT95P285X140-5N
pins: 1 EN, 2 GND, 3 LX, 4 IN, 5 FB

## SY8120B1ABC
designator IC?
Integrated Circuit; Manufacturer_Name: Silergy Corp; Manufacturer_Part_Number: SY8120B1ABC; Datasheet Link: https://datasheet.lcsc.com/szlcsc/Silergy-Corp-SY8120B1ABC_C88474.pdf; Height: 1.4mm
footprint SOT95P285X140-6N
pins: 1 BS, 2 GND, 3 FB, 4 EN, 5 IN, 6 LX

## SY8303AIC
designator IC?
Integrated Circuit; Manufacturer_Name: Silergy; Manufacturer_Part_Number: SY8303AIC; Datasheet Link: https://datasheet.lcsc.com/szlcsc/Silergy-Corp-SY8303AIC_C97054.pdf; Height: 1.1mm
footprint SOT65P280X110-8N
pins: 1 FB, 2 FS, 3 GND_1, 4 GND_2, 5 IN, 6 LX, 7 BS, 8 EN

## T3001NLT
designator T?
Transformer; Manufacturer_Name: Pulse; Manufacturer_Part_Number: T3001NLT; Datasheet Link: http://productfinder.pulseeng.com/products/datasheets/T619.pdf; Height: 6mm; Mouser Part Number: 673-T3001NL673-T; Mouser Price/Stock: https://www.mouser.com/Search/Refine.aspx?Keyword=673-T3001NL673-T
footprint T3001NLT
pins: 1, 2, 3, 4, 5, 6

## TLV3541IDBVT
designator IC?
Integrated Circuit; Manufacturer_Name: Texas Instruments; Manufacturer_Part_Number: TLV3541IDBVT; Datasheet Link: http://www.ti.com/lit/ds/symlink/tlv3544.pdf; Height: 1.45mm; Mouser Part Number: 595-TLV3541IDBVT; Mouser Price/Stock: https://www.mouser.co.uk/ProductDetail/Texas-Instruments/TLV3541IDBVT?qs=9lcNTSmDlCrkNQ%2FJO3Zl6A%3D%3D; Arrow Part Number: TLV3541IDBVT; Arrow Price/Stock: https://www.arrow.com/en/products/tlv3541idbvt/texas-instruments?region=nac
footprint SOT95P280X145-5N
pins: 1 OUT (out), 2 V- (power), 3 +IN (in), 4 -IN (in), 5 V+ (power)

## TLV62569DBVR
designator IC?
Integrated Circuit; Manufacturer_Name: Texas Instruments; Manufacturer_Part_Number: TLV62569DBVR; Datasheet Link: http://www.ti.com/lit/gpn/tlv62569; Height: 1.45mm; Mouser Part Number: 595-TLV62569DBVR; Mouser Price/Stock: https://www.mouser.com/Search/Refine.aspx?Keyword=595-TLV62569DBVR
footprint SOT95P280X145-5N
pins: 1 EN, 2 GND, 3 SW, 4 VIN, 5 FB

## TMUX1104DGSR
designator IC?
Integrated Circuit; Manufacturer_Name: Texas Instruments; Manufacturer_Part_Number: TMUX1104DGSR; Datasheet Link: http://www.ti.com/lit/ds/symlink/tmux1104.pdf; Height: 1.1mm; Mouser Part Number: 595-TMUX1104DGSR; Mouser Price/Stock: https://www.mouser.co.uk/ProductDetail/Texas-Instruments/TMUX1104DGSR?qs=PqoDHHvF64%2FGMPQ%252BUVRygg%3D%3D; Arrow Part Number: TMUX1104DGSR; Arrow Price/Stock: https://www.arrow.com/en/products/tmux1104dgsr/texas-instruments?region=nac
footprint SOP50P490X110-10N
pins: 1 A0, 2 S1, 3 GND, 4 S3, 5 EN, 6 VDD, 7 S4, 8 D, 9 S2, 10 A1

## TMUX1204DGSR
designator IC?
Integrated Circuit; Manufacturer_Name: Texas Instruments; Manufacturer_Part_Number: TMUX1204DGSR; Datasheet Link: http://www.ti.com/lit/gpn/TMUX1204; Height: 1.1mm; Mouser Part Number: 595-TMUX1204DGSR; Mouser Price/Stock: https://www.mouser.co.uk/ProductDetail/Texas-Instruments/TMUX1204DGSR?qs=EBDBlbfErPw42Q0DdvAwUg%3D%3D; Arrow Part Number: TMUX1204DGSR; Arrow Price/Stock: https://www.arrow.com/en/products/tmux1204dgsr/texas-instruments
footprint SOP50P490X110-10N
pins: 1 A0 (in), 2 S1 (io), 3 GND (power), 4 S3 (io), 5 EN (in), 6 VDD (power), 7 S4 (io), 8 D (io), 9 S2 (io), 10 A1 (in)

## TMUX1208PWR
designator IC?
Integrated Circuit; Manufacturer_Name: Texas Instruments; Manufacturer_Part_Number: TMUX1208PWR; Datasheet Link: http://www.ti.com/lit/gpn/tmux1208; Height: 1.2mm; Mouser Part Number: 595-TMUX1208PWR; Mouser Price/Stock: https://www.mouser.co.uk/ProductDetail/Texas-Instruments/TMUX1208PWR?qs=lc2O%252BfHJPVbYdIGs2%2FdugA%3D%3D; Arrow Part Number: TMUX1208PWR; Arrow Price/Stock: https://www.arrow.com/en/products/tmux1208pwr/texas-instruments
footprint SOP65P640X120-16N
pins: 1 A0, 2 EN, 3 N.C., 4 S1, 5 S2, 6 S3, 7 S4, 8 D, 9 S8, 10 S7, 11 S6, 12 S5, 13 VDD, 14 GND, 15 A2, 16 A1

## TPA3116D2DADR
designator IC?
Integrated Circuit; Manufacturer_Name: Texas Instruments; Manufacturer_Part_Number: TPA3116D2DADR; Datasheet Link: http://www.ti.com/lit/gpn/tpa3116d2; Height: 1.2mm; Mouser Part Number: 595-TPA3116D2DADR; Mouser Price/Stock: https://www.mouser.co.uk/ProductDetail/Texas-Instruments/TPA3116D2DADR?qs=3AcK5DacLbpIP1YDOj0hAg%3D%3D; Arrow Part Number: TPA3116D2DADR; Arrow Price/Stock: https://www.arrow.com/en/products/tpa3116d2dadr/texas-instruments?region=nac
footprint SOP65P810X120-33N
pins: 1 MODSEL, 2 SDZ, 3 FAULTZ, 4 RINP, 5 RINN, 6 PLIMIT, 7 GVDD, 8 GAIN/SLV, 9 GND_1, 10 LINP, 11 LINN, 12 MUTE, 13 AM2, 14 AM1, 15 AM0, 16 SYNC, 17 AVCC, 18 PVCC_1, 19 PVCC_2, 20 BSNL, 21 OUTNL, 22 GND_2, 23 OUTPL, 24 BSPL, 25 GND_3, 26 BSNR, 27 OUTNR, 28 GND_4, 29 OUTPR, 30 BSPR, 31 PVCC_3, 32 PVCC_4, 33 EP

## TPA6110A2DGN
designator IC?
Integrated Circuit; Manufacturer_Name: Texas Instruments; Manufacturer_Part_Number: TPA6110A2DGN; Datasheet Link: http://www.ti.com/lit/gpn/tpa6110a2; Height: 1.1mm; Arrow Part Number: TPA6110A2DGN; Arrow Price/Stock: https://www.arrow.com/en/products/tpa6110a2dgn/texas-instruments; Mouser Part Number: 595-TPA6110A2DGN; Mouser Price/Stock: https://www.mouser.co.uk/ProductDetail/Texas-Instruments/TPA6110A2DGN?qs=ojKcPFmCWSXEvp7P398E%2FQ%3D%3D
footprint SOP65P490X110-9N
pins: 1 BYPASS, 2 GND_1, 3 SHUTDOWN, 4 IN2-, 5 VO2, 6 VDD, 7 VO1, 8 IN1-, 9 GND_2

## TPA6120A2DWP
designator IC?
Integrated Circuit; Manufacturer_Name: Texas Instruments; Manufacturer_Part_Number: TPA6120A2DWP; Datasheet Link: http://www.ti.com/general/docs/lit/getliterature.tsp?genericPartNumber=TPA6120A2&&fileType=pdf; Height: 2.65mm; Arrow Part Number: TPA6120A2DWP; Arrow Price/Stock: https://www.arrow.com/en/products/tpa6120a2dwp/texas-instruments; Mouser Part Number: 595-TPA6120A2DWP; Mouser Price/Stock: https://www.mouser.co.uk/ProductDetail/Texas-Instruments/TPA6120A2DWP?qs=ojKcPFmCWSUNcUaivjd44w%3D%3D
footprint SOIC127P1040X265-21N
pins: 1 LVCC-, 2 LOUT, 3 LVCC+, 4 LIN+, 5 LIN-, 6 NC_1, 7 NC_2, 8 NC_3, 9 NC_4, 10 NC_5, 11 NC_6, 12 NC_7, 13 NC_8, 14 NC_9, 15 NC_10, 16 RIN-, 17 RIN+, 18 RVCC+, 19 ROUT, 20 RVCC-, 21 EP

## TPA6120A2RGYT
designator IC?
Integrated Circuit; Manufacturer_Name: Texas Instruments; Manufacturer_Part_Number: TPA6120A2RGYT; Datasheet Link: http://www.ti.com/lit/gpn/tpa6120a2; Arrow Part Number: TPA6120A2RGYT; Arrow Price/Stock: https://www.arrow.com/en/products/tpa6120a2rgyt/texas-instruments; Mouser Part Number: 595-TPA6120A2RGYT; Mouser Price/Stock: https://www.mouser.co.uk/ProductDetail/Texas-Instruments/TPA6120A2RGYT?qs=bZA2O%252B%252B1GJuCTwjuP6NvCw%3D%3D
footprint RGY-(S-PVQFN-N14)
pins: 1 LIN+, 2 LIN-, 3 NC_1, 4 NC_2, 5 NC_3, 6 RIN-, 7 RIN+, 8 RVCC+, 9 ROUT, 10 RVCC-, 11 NC_4, 12 LVCC-, 13 LOUT, 14 LVCC+, 15 EP

## TPA6138A2PWR
designator IC?
耳机驱动器; Manufacturer_Name: Texas Instruments; Manufacturer_Part_Number: TPA6138A2PW; Datasheet Link: http://www.ti.com/general/docs/lit/getliterature.tsp?genericPartNumber=tpa6139a2&fileType=pdf; Height: 1.2mm; Mouser Part Number: 595-TPA6138A2PW; Mouser Price/Stock: https://www.mouser.com/Search/Refine.aspx?Keyword=595-TPA6138A2PW; RS Part Number: 8124252P; RS Price/Stock: http://uk.rs-online.com/web/p/products/8124252P
footprint SOP65P640X120-14N
pins: 2 INR- (out), 2 INR+ (out), 3 OUTR (power), 4 GND, 5 ~{Mute} (power), 6 VSS, 7 CN, 8 CP, 9 VDD, 10 GND (power), 11 UVP (power), 12 OUTL (in), 13 INL- (out), 14 INL+ (in)

## TPD1E1B04DPYR
designator D?
TVS Diode (Bi-directional); Manufacturer_Name: Texas Instruments; Manufacturer_Part_Number: TPD1E1B04DPYR; Datasheet Link: https://www.ti.com/lit/gpn/tpd1e1b04?HQS=ti-null-null-sf-df-pf-sep-wwe&DCM=yes?hkey=EF798316E3902B6ED9A73243A3159BB0; Height: 0.45mm; Mouser Part Number: 595-TPD1E1B04DPYR; Mouser Price/Stock: https://www.mouser.co.uk/ProductDetail/Texas-Instruments/TPD1E1B04DPYR?qs=LuYMPh7GGMTwEWL%2FIe5IJQ%3D%3D; Arrow Part Number: TPD1E1B04DPYR; Arrow Price/Stock: https://www.arrow.com/en/products/tpd1e1b04dpyr/texas-instruments?region=nac
footprint TPD1E1B04DPYR
pins: 1, 2

## TPD1E10B06DPYR
designator D?
TVS Diode (Bi-directional); Manufacturer_Name: Texas Instruments; Manufacturer_Part_Number: TPD1E10B06DPYR; Datasheet Link: https://www.ti.com/lit/ds/symlink/tpd1e10b06.pdf?HQS=TI-null-null-mousermode-df-pf-null-wwe&ts=1599077798252&ref_url=https%253A%252F%252Fwww.mouser.com%252F; Height: 0.45mm; Mouser Part Number: 595-TPD1E10B06DPYR; Mouser Price/Stock: https://www.mouser.co.uk/ProductDetail/Texas-Instruments/TPD1E10B06DPYR?qs=UFc95S4Z4CaJYpQ4xqTc0g%3D%3D; Arrow Part Number: TPD1E10B06DPYR; Arrow Price/Stock: https://www.arrow.com/en/products/tpd1e10b06dpyr/texas-instruments?region=nac
footprint TPD1E10B06DPYR
pins: 1, 2

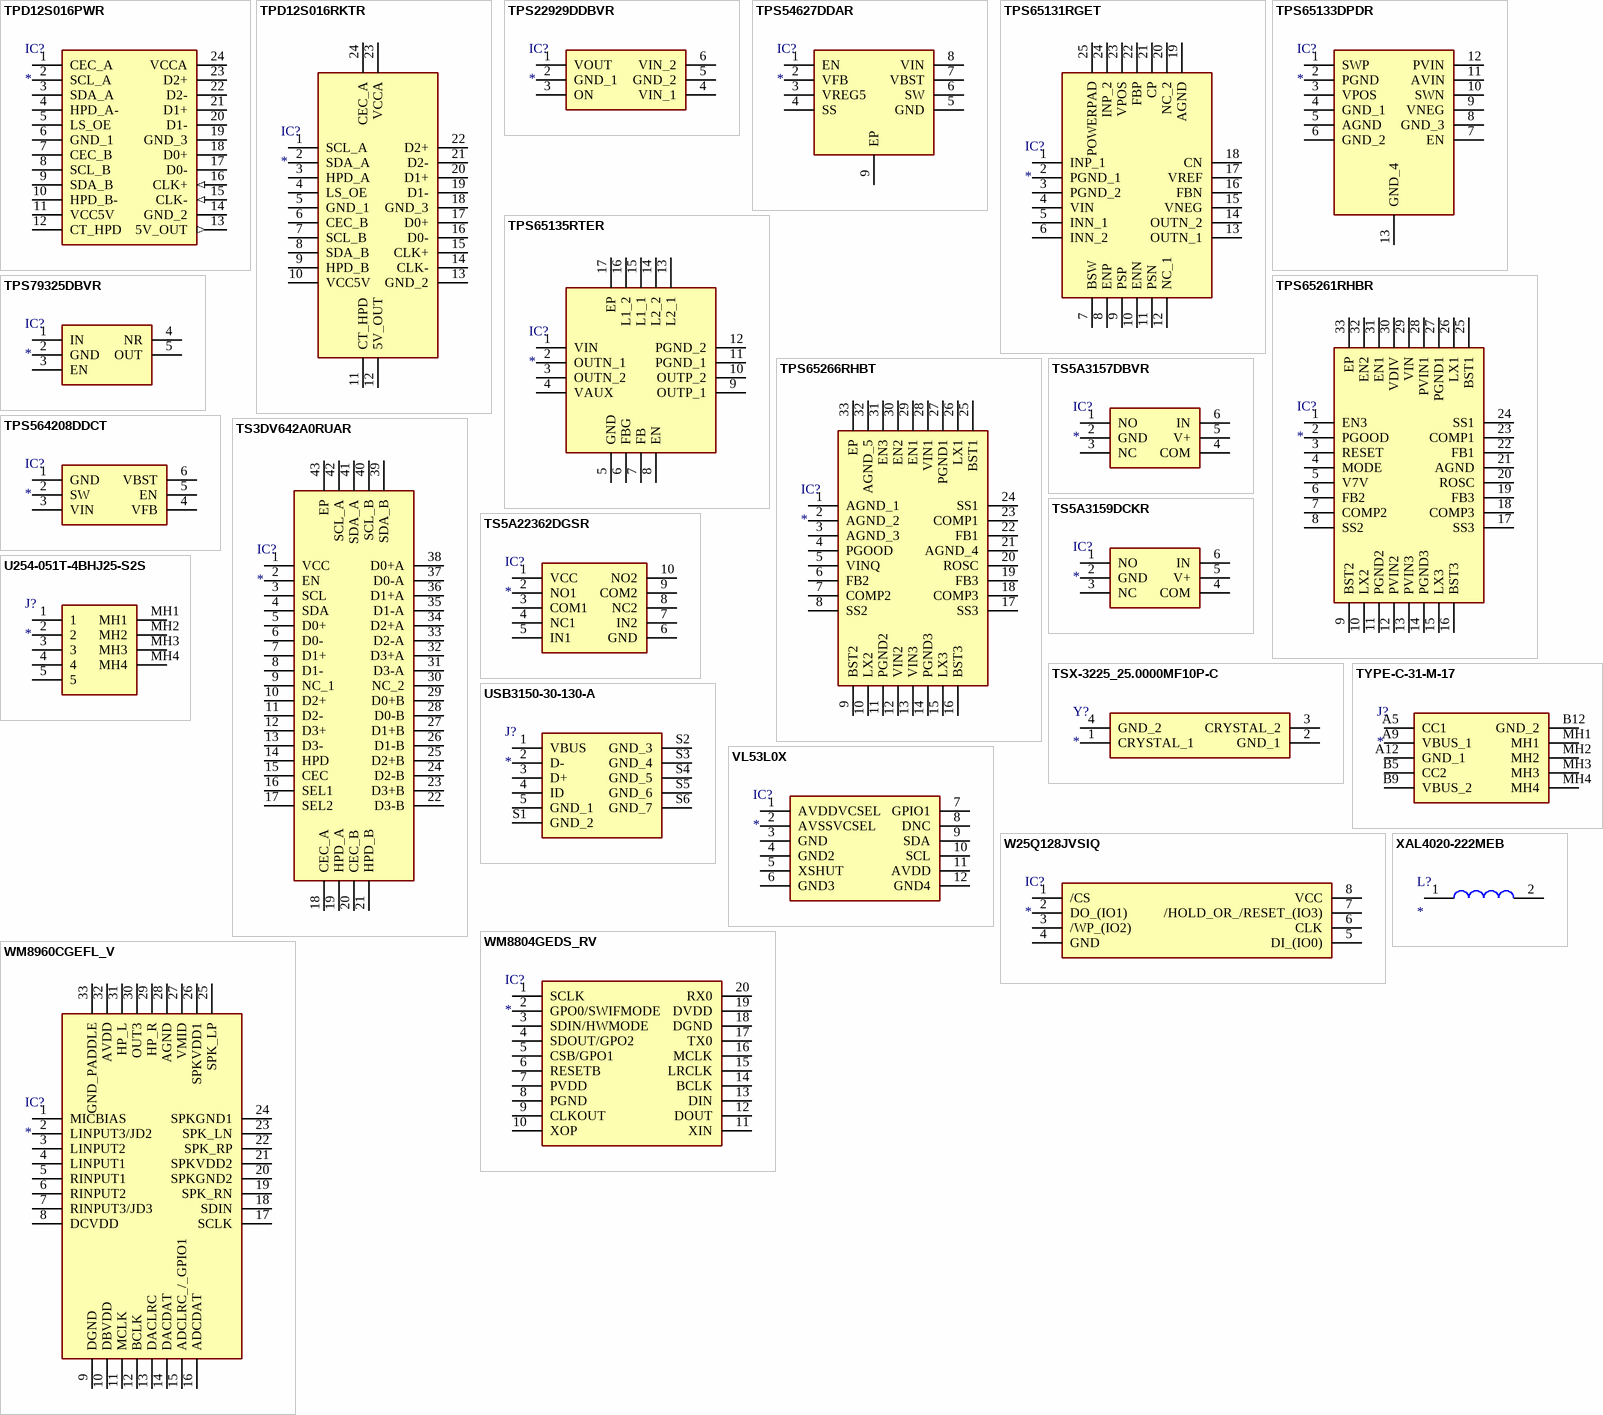
[diagram p6: symbols TPD12S016PWR to XAL4020-222MEB]

## TPD12S016PWR
designator IC?
Integrated Circuit; Manufacturer_Name: Texas Instruments; Manufacturer_Part_Number: TPD12S016PWR; Datasheet Link: http://www.ti.com/lit/ds/symlink/tpd12s016.pdf; Height: 1.2mm; Mouser Part Number: 595-TPD12S016PWR; Mouser Price/Stock: https://www.mouser.co.uk/ProductDetail/Texas-Instruments/TPD12S016PWR?qs=Brs2XCuyt3duqIFAdfG0Pg%3D%3D; RS Part Number: 8124270P; RS Price/Stock: http://uk.rs-online.com/web/p/products/8124270P
footprint SOP65P640X120-24N
pins: 1 CEC_A, 2 SCL_A, 3 SDA_A, 4 HPD_A-, 5 LS_OE, 6 GND_1 (power), 7 CEC_B, 8 SCL_B, 9 SDA_B, 10 HPD_B-, 11 VCC5V (power), 12 CT_HPD, 13 5V_OUT (out), 14 GND_2 (power), 15 CLK- (in), 16 CLK+ (in), 17 D0-, 18 D0+, 19 GND_3 (power), 20 D1-, 21 D1+, 22 D2-, 23 D2+, 24 VCCA (power)

## TPD12S016RKTR
designator IC?
Integrated Circuit; Manufacturer_Name: Texas Instruments; Manufacturer_Part_Number: TPD12S016RKTR; Datasheet Link: http://www.ti.com/lit/gpn/tpd12s016; Height: 0.55mm; Mouser Part Number: 595-TPD12S016RKTR; Mouser Price/Stock: https://www.mouser.co.uk/ProductDetail/Texas-Instruments/TPD12S016RKTR?qs=L4ss%2FyqpMWReFu%2F7Mt7A8A%3D%3D
footprint QFN40P200X400X55-24N
pins: 1 SCL_A, 2 SDA_A, 3 HPD_A, 4 LS_OE, 5 GND_1, 6 CEC_B, 7 SCL_B, 8 SDA_B, 9 HPD_B, 10 VCC5V, 11 CT_HPD, 12 5V_OUT, 13 GND_2, 14 CLK-, 15 CLK+, 16 D0-, 17 D0+, 18 GND_3, 19 D1-, 20 D1+, 21 D2-, 22 D2+, 23 VCCA, 24 CEC_A

## TPS22929DDBVR
designator IC?
Integrated Circuit; Manufacturer_Name: Texas Instruments; Manufacturer_Part_Number: TPS22929DDBVR; Datasheet Link: http://www.ti.com/lit/gpn/tps22929d; Height: 1.45mm; Mouser Part Number: 595-TPS22929DDBVR; Mouser Price/Stock: https://www.mouser.com/Search/Refine.aspx?Keyword=595-TPS22929DDBVR
footprint SOP95P280X145-6N
pins: 1 VOUT, 2 GND_1, 3 ON, 4 VIN_1, 5 GND_2, 6 VIN_2

## TPS54627DDAR
designator IC?
Integrated Circuit; Manufacturer_Name: Texas Instruments; Manufacturer_Part_Number: TPS54627DDAR; Datasheet Link: http://www.ti.com/lit/gpn/tps54627; Height: 1.7mm; Arrow Part Number: TPS54627DDAR; Arrow Price/Stock: https://www.arrow.com/en/products/tps54627ddar/texas-instruments; Mouser Part Number: 595-TPS54627DDAR; Mouser Price/Stock: https://www.mouser.com/Search/Refine.aspx?Keyword=595-TPS54627DDAR
footprint SOIC127P600X170-9N
pins: 1 EN, 2 VFB, 3 VREG5, 4 SS, 5 GND, 6 SW, 7 VBST, 8 VIN, 9 EP

## TPS65131RGET
designator IC?
Integrated Circuit; Manufacturer_Name: Texas Instruments; Manufacturer_Part_Number: TPS65131RGET; Datasheet Link: http://www.ti.com/lit/ds/symlink/tps65130.pdf; Height: 1mm; Arrow Part Number: TPS65131RGET; Arrow Price/Stock: https://www.arrow.com/en/products/tps65131rget/texas-instruments; Mouser Part Number: 595-TPS65131RGET; Mouser Price/Stock: https://www.mouser.co.uk/ProductDetail/Texas-Instruments/TPS65131RGET?qs=Gse6rAGbi7%2FStiVl23F5Fg%3D%3D
footprint QFN50P400X400X100-25N
pins: 1 INP_1, 2 PGND_1, 3 PGND_2, 4 VIN, 5 INN_1, 6 INN_2, 7 BSW, 8 ENP, 9 PSP, 10 ENN, 11 PSN, 12 NC_1, 13 OUTN_1, 14 OUTN_2, 15 VNEG, 16 FBN, 17 VREF, 18 CN, 19 AGND, 20 NC_2, 21 CP, 22 FBP, 23 VPOS, 24 INP_2, 25 POWERPAD

## TPS65133DPDR
designator IC?
Integrated Circuit; Manufacturer_Name: Texas Instruments; Manufacturer_Part_Number: TPS65133DPDR; Datasheet Link: http://www.ti.com/lit/ds/symlink/tps65133.pdf; Height: 0.8mm; Arrow Part Number: TPS65133DPDR; Arrow Price/Stock: https://www.arrow.com/en/products/tps65133dpdr/texas-instruments; Mouser Part Number: 595-TPS65133DPDR; Mouser Price/Stock: https://www.mouser.co.uk/ProductDetail/Texas-Instruments/TPS65133DPDR?qs=7GxONfNUZSjxiorxR5wfmg%3D%3D
footprint SON45P300X300X80-13N-D
pins: 1 SWP, 2 PGND, 3 VPOS, 4 GND_1, 5 AGND, 6 GND_2, 7 EN, 8 GND_3, 9 VNEG, 10 SWN, 11 AVIN, 12 PVIN, 13 GND_4

## TPS65135RTER
designator IC?
Integrated Circuit; Manufacturer_Name: Texas Instruments; Manufacturer_Part_Number: TPS65135RTER; Datasheet Link: http://www.ti.com/lit/gpn/tps65135; Height: 0.8mm; Arrow Part Number: TPS65135RTER; Arrow Price/Stock: https://www.arrow.com/en/products/tps65135rter/texas-instruments; Mouser Part Number: 595-TPS65135RTER; Mouser Price/Stock: https://www.mouser.co.uk/ProductDetail/Texas-Instruments/TPS65135RTER?qs=bS0R8qMSxJPTFpD2v51qPQ%3D%3D
footprint QFN50P300X300X80-17N-D
pins: 1 VIN, 2 OUTN_1, 3 OUTN_2, 4 VAUX, 5 GND, 6 FBG, 7 FB, 8 EN, 9 OUTP_1, 10 OUTP_2, 11 PGND_1, 12 PGND_2, 13 L2_1, 14 L2_2, 15 L1_1, 16 L1_2, 17 EP

## TPS65261RHBR
designator IC?
Integrated Circuit; Manufacturer_Name: Texas Instruments; Manufacturer_Part_Number: TPS65261RHBR; Datasheet Link: http://www.ti.com/lit/gpn/tps65261; Height: 1mm; Mouser Part Number: 595-TPS65261RHBR; Mouser Price/Stock: https://www.mouser.com/Search/Refine.aspx?Keyword=595-TPS65261RHBR
footprint QFN50P500X500X100-33N-D
pins: 1 EN3, 2 PGOOD, 3 RESET, 4 MODE, 5 V7V, 6 FB2, 7 COMP2, 8 SS2, 9 BST2, 10 LX2, 11 PGND2, 12 PVIN2, 13 PVIN3, 14 PGND3, 15 LX3, 16 BST3, 17 SS3, 18 COMP3, 19 FB3, 20 ROSC, 21 AGND, 22 FB1, 23 COMP1, 24 SS1, 25 BST1, 26 LX1, 27 PGND1, 28 PVIN1, 29 VIN, 30 VDIV, 31 EN1, 32 EN2, 33 EP

## TPS65266RHBT
designator IC?
Integrated Circuit; Manufacturer_Name: Texas Instruments; Manufacturer_Part_Number: TPS65266RHBT; Datasheet Link: http://www.ti.com/lit/gpn/TPS65266; Height: 1mm; Mouser Part Number: 595-TPS65266RHBT; Mouser Price/Stock: https://www.mouser.com/Search/Refine.aspx?Keyword=595-TPS65266RHBT
footprint QFN50P500X500X100-33N-D
pins: 1 AGND_1, 2 AGND_2, 3 AGND_3, 4 PGOOD, 5 VINQ, 6 FB2, 7 COMP2, 8 SS2, 9 BST2, 10 LX2, 11 PGND2, 12 VIN2, 13 VIN3, 14 PGND3, 15 LX3, 16 BST3, 17 SS3, 18 COMP3, 19 FB3, 20 ROSC, 21 AGND_4, 22 FB1, 23 COMP1, 24 SS1, 25 BST1, 26 LX1, 27 PGND1, 28 VIN1, 29 EN1, 30 EN2, 31 EN3, 32 AGND_5, 33 EP

## TPS79325DBVR
designator IC?
Integrated Circuit; Manufacturer_Name: Texas Instruments; Manufacturer_Part_Number: TPS79325DBVR; Datasheet Link: http://www.ti.com/lit/gpn/tps793; Height: 1.45mm; Mouser Part Number: 595-TPS79325DBVR; Mouser Price/Stock: https://www.mouser.com/Search/Refine.aspx?Keyword=595-TPS79325DBVR; RS Part Number: 6614481P; RS Price/Stock: http://uk.rs-online.com/web/p/products/6614481P
footprint SOT95P280X145-5N
pins: 1 IN, 2 GND, 3 EN, 4 NR, 5 OUT

## TPS564208DDCT
designator IC?
Integrated Circuit; Manufacturer_Name: Texas Instruments; Manufacturer_Part_Number: TPS564208DDCT; Datasheet Link: http://www.ti.com/lit/ds/symlink/tps564208.pdf; Height: 1.1mm; Mouser Part Number: 595-TPS564208DDCT; Mouser Price/Stock: https://www.mouser.com/Search/Refine.aspx?Keyword=595-TPS564208DDCT; RS Part Number: 1330753P; RS Price/Stock: http://uk.rs-online.com/web/p/products/1330753P
footprint SOT95P280X110-6N
pins: 1 GND, 2 SW, 3 VIN, 4 VFB, 5 EN, 6 VBST

## TS3DV642A0RUAR
designator IC?
Integrated Circuit; Manufacturer_Name: Texas Instruments; Manufacturer_Part_Number: TS3DV642A0RUAR; Datasheet Link: http://www.ti.com/lit/gpn/ts3dv642; Height: 0.8mm; Mouser Part Number: 595-TS3DV642A0RUAR; Mouser Price/Stock: https://www.mouser.co.uk/ProductDetail/Texas-Instruments/TS3DV642A0RUAR?qs=zjX5mX%252BjEMCTQjtLUY3z%2FA%3D%3D; Arrow Part Number: TS3DV642A0RUAR; Arrow Price/Stock: https://www.arrow.com/en/products/ts3dv642a0ruar/texas-instruments?region=nac
footprint QFN50P350X900X80-43N-D
pins: 1 VCC, 2 EN, 3 SCL, 4 SDA, 5 D0+, 6 D0-, 7 D1+, 8 D1-, 9 NC_1, 10 D2+, 11 D2-, 12 D3+, 13 D3-, 14 HPD, 15 CEC, 16 SEL1, 17 SEL2, 18 CEC_A, 19 HPD_A, 20 CEC_B, 21 HPD_B, 22 D3-B, 23 D3+B, 24 D2-B, 25 D2+B, 26 D1-B, 27 D1+B, 28 D0-B, 29 D0+B, 30 NC_2, 31 D3-A, 32 D3+A, 33 D2-A, 34 D2+A, 35 D1-A, 36 D1+A, 37 D0-A, 38 D0+A, 39 SDA_B, 40 SCL_B, 41 SDA_A, 42 SCL_A, 43 EP

## TS5A3157DBVR
designator IC?
Integrated Circuit; Manufacturer_Name: Texas Instruments; Manufacturer_Part_Number: TS5A3157DBVR; Datasheet Link: http://www.ti.com/general/docs/lit/getliterature.tsp?genericPartNumber=ts5a3157&fileType=pdf; Height: 1.45mm; Arrow Part Number: TS5A3157DBVR; Arrow Price/Stock: https://www.arrow.com/en/products/ts5a3157dbvr/texas-instruments; Mouser Part Number: 595-TS5A3157DBVR; Mouser Price/Stock: https://www.mouser.co.uk/ProductDetail/Texas-Instruments/TS5A3157DBVR?qs=0O%2FZFlpUpJUE%2F9RUWXxdeQ%3D%3D
footprint SOT95P280X145-6N
pins: 1 NO, 2 GND, 3 NC, 4 COM, 5 V+, 6 IN

## TS5A3159DCKR
designator IC?
Integrated Circuit; Manufacturer_Name: Texas Instruments; Manufacturer_Part_Number: TS5A3159DCKR; Datasheet Link: http://www.ti.com/lit/gpn/ts5a3159; Height: 1.1mm; Mouser Part Number: 595-TS5A3159DCKR; Mouser Price/Stock: https://www.mouser.co.uk/ProductDetail/Texas-Instruments/TS5A3159DCKR?qs=0O%2FZFlpUpJU45HxzBuW7FA%3D%3D; Arrow Part Number: TS5A3159DCKR; Arrow Price/Stock: https://www.arrow.com/en/products/ts5a3159dckr/texas-instruments
footprint SOT65P210X110-6N
pins: 1 NO, 2 GND, 3 NC, 4 COM, 5 V+, 6 IN

## TS5A22362DGSR
designator IC?
Integrated Circuit; Manufacturer_Name: Texas Instruments; Manufacturer_Part_Number: TS5A22362DGSR; Datasheet Link: http://componentsearchengine.com/Datasheets/3/TS5A22362DGSR.pdf; Height: 1.1mm; Arrow Part Number: TS5A22362DGSR; Arrow Price/Stock: https://www.arrow.com/en/products/ts5a22362dgsr/texas-instruments; Mouser Part Number: 595-TS5A22362DGSR; Mouser Price/Stock: https://www.mouser.com/Search/Refine.aspx?Keyword=595-TS5A22362DGSR
footprint SOP50P490X110-10N
pins: 1 VCC, 2 NO1, 3 COM1, 4 NC1, 5 IN1, 6 GND, 7 IN2, 8 NC2, 9 COM2, 10 NO2

## TSX-3225_25.0000MF10P-C
designator Y?
Crystal or Oscillator; Manufacturer_Name: Epson Timing; Manufacturer_Part_Number: TSX-3225 25.0000MF10P-C; Datasheet Link: https://componentsearchengine.com/Datasheets/1/TSX-3225 25.0000MF10P-C.pdf; Height: 0.6mm; Mouser Part Number: 732-322525MF10P-C; Mouser Price/Stock: https://www.mouser.co.uk/ProductDetail/Epson-Timing/TSX-3225-250000MF10P-C?qs=%252B0hcjpVv37ps984o2uLjvA%3D%3D; Arrow Part Number: TSX-3225 25.0000MF10P-C; Arrow Price/Stock: https://www.arrow.com/en/products/tsx-322525.0000mf10p-c/epson-electronics-america
footprint TSX3225250000MF10PC
pins: 1 CRYSTAL_1, 2 GND_1, 3 CRYSTAL_2, 4 GND_2

## TYPE-C-31-M-17
designator J?
Connector; Manufacturer_Name: Korean Hroparts Elec; Manufacturer_Part_Number: TYPE-C-31-M-17; Datasheet Link: https://datasheet.lcsc.com/szlcsc/1903211732_Korean-Hroparts-Elec-TYPE-C-31-M-17_C283540.pdf; Height: 3.26mm
footprint TYPEC31M17
pins: A5 CC1, A9 VBUS_1, A12 GND_1, B5 CC2, B9 VBUS_2, B12 GND_2, MH1, MH2, MH3, MH4

## U254-051T-4BHJ25-S2S
designator J?
Connector; Manufacturer_Name: XKB Enterprise; Manufacturer_Part_Number: U254-051T-4BHJ25-S2S; Datasheet Link: https://datasheet.lcsc.com/szlcsc/2002271812_XKB-Enterprise-U254-051T-4BHJ25-S2S_C319163.pdf; Height: 2.9mm
footprint U254051T4BHJ25S2S
pins: 1, 2, 3, 4, 5, MH1, MH2, MH3, MH4

## USB3150-30-130-A
designator J?
Connector; Manufacturer_Name: GLOBAL CONNECTOR TECHNOLOGY; Manufacturer_Part_Number: USB3150-30-130-A; Datasheet Link: https://gct.co/files/drawings/usb3150.pdf; Height: 7.23mm
footprint USB315030130A
pins: 1 VBUS, 2 D-, 3 D+, 4 ID, 5 GND_1, S1 GND_2, S2 GND_3, S3 GND_4, S4 GND_5, S5 GND_6, S6 GND_7

## VL53L0X
designator IC?
Integrated Circuit; Manufacturer_Name: STMicroelectronics; Manufacturer_Part_Number: VL53L0X; Datasheet Link: https://www.mouser.com/ds/2/389/vl53l0x-1156212.pdf; Height: 1mm
footprint VL53L0X
pins: 1 AVDDVCSEL, 2 AVSSVCSEL, 3 GND, 4 GND2, 5 XSHUT, 6 GND3, 7 GPIO1, 8 DNC, 9 SDA, 10 SCL, 11 AVDD, 12 GND4

## W25Q128JVSIQ
designator IC?
Integrated Circuit; Manufacturer_Name: Winbond; Manufacturer_Part_Number: W25Q128JVSIQ; Datasheet Link: https://www.winbond.com/resource-files/w25q128jv%20revf%2003272018%20plus.pdf; Height: 2.16mm; Mouser Part Number: 454-W25Q128JVSIQ; Mouser Price/Stock: https://www.mouser.co.uk/ProductDetail/Winbond/W25Q128JVSIQ?qs=qSfuJ%252Bfl%2Fd6tLXvPR4fl9w%3D%3D; Arrow Part Number: W25Q128JVSIQ; Arrow Price/Stock: https://www.arrow.com/en/products/w25q128jvsiq/winbond-electronics?region=nac
footprint SOIC127P790X216-8N
pins: 1 /CS, 2 DO_(IO1), 3 /WP_(IO2), 4 GND, 5 DI_(IO0), 6 CLK, 7 /HOLD_OR_/RESET_(IO3), 8 VCC

## WM8804GEDS_RV
designator IC?
Integrated Circuit; Manufacturer_Name: Cirrus Logic; Manufacturer_Part_Number: WM8804GEDS/RV; Datasheet Link: https://d3uzseaevmutz1.cloudfront.net/pubs/proDatasheet/WM8804_v4.5.pdf; Height: 2mm; Mouser Part Number: 238-WM8804GEDS/RV; Mouser Price/Stock: https://www.mouser.co.uk/ProductDetail/Cirrus-Logic/WM8804GEDS-RV?qs=%2F%252BPMR94VuMYwzSe6qKCihg%3D%3D
footprint SOP65P780X200-20N
pins: 1 SCLK, 2 GPO0/SWIFMODE, 3 SDIN/HWMODE, 4 SDOUT/GPO2, 5 CSB/GPO1, 6 RESETB, 7 PVDD, 8 PGND, 9 CLKOUT, 10 XOP, 11 XIN, 12 DOUT, 13 DIN, 14 BCLK, 15 LRCLK, 16 MCLK, 17 TX0, 18 DGND, 19 DVDD, 20 RX0